# Altium integrated library Altera MAX 7000S.IntLib: 338 symbols (part 18 of 20)
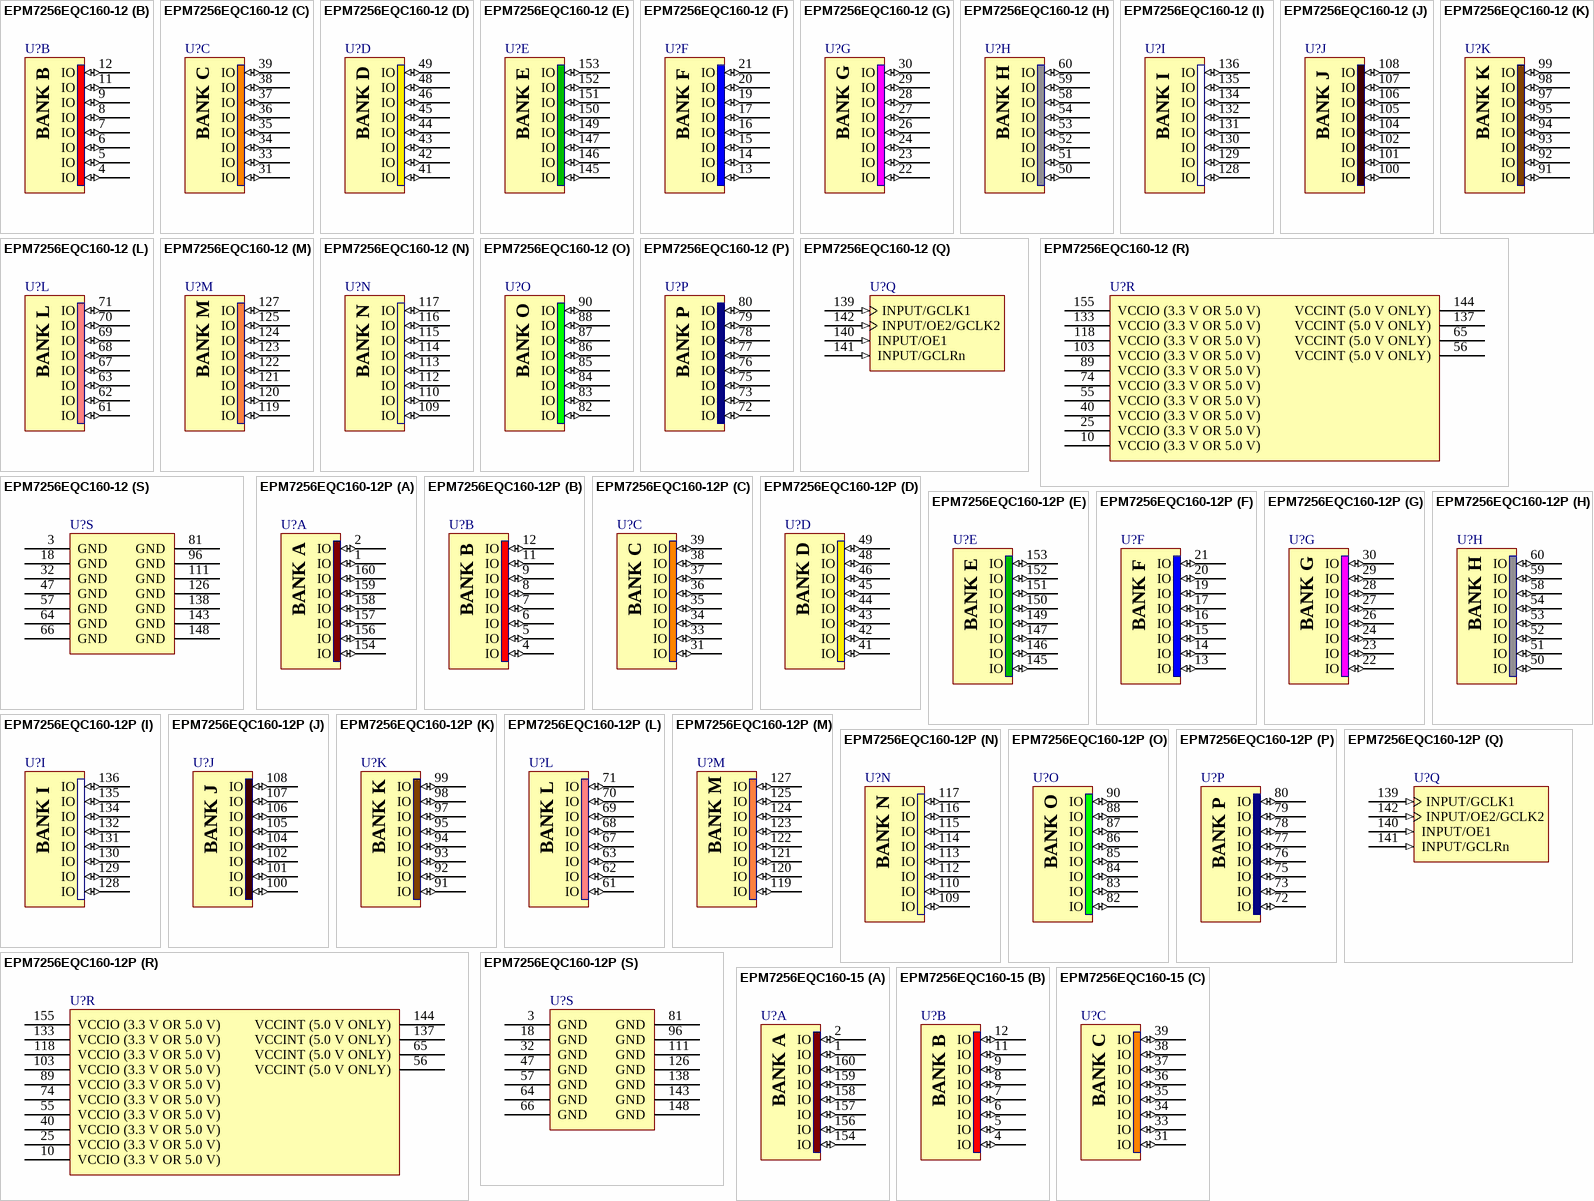
[diagram p121: symbols EPM7256EQC160-12 to EPM7256EQC160-15]

## EPM7256EQC160-12
designator U?
MAX 7000E 5V CPLD, 256 Macrocells, 160-Pin PQFP, Speed Grade 12, Commercial Grade; Published: 24-Nov-2000; LatestRevisionDate: 13-Apr-2006; LatestRevisionNote: IPC-7351 Footprint Added.; DatasheetVersion: ver6.7, Sep-2005; PackageVersion: ver14.3, Jul-2006; PackageReference: PQFP160; Publisher: Altium Limited; PackageDescription: 160-Pin Plastic Quad Flat Pack (PFQP160); Code_JEDEC: MS-022-DD-1; Code_IPC: QFP65P3120X3120-160; ComponentLink1Description: Manufacturer Link; ComponentLink1URL: http://www.altera.com/products/devices/max7k/m7k-index.html; ComponentLink2Description: Datasheet; ComponentLink2URL: http://www.altera.com/literature/ds/m7000.pdf; ComponentLink3Description: Packaging Specification; ComponentLink3URL: http://www.altera.com/literature/ds/dspkg.pdf
footprint PQFP160_N (QFP, 160-Leads, Body 28x28mm, Pitch 0.65mm, IPC Medium Density)
footprint PQFP160_L (QFP, 160-Leads, Body 28x28mm, Pitch 0.65mm, IPC High Density)
footprint PQFP160_M (QFP, 160-Leads, Body 28x28mm, Pitch 0.65mm, IPC Low Density)
3D model EPM7256E-PQFP160 (160-Pin Plastic Quad Flat Pack (PFQP160))
signal-integrity model 7k (MAX 7000S)
part A pins: 1 IO (io), 2 IO (io), 154 IO (io), 156 IO (io), 157 IO (io), 158 IO (io), 159 IO (io), 160 IO (io)
part B pins: 4 IO (io), 5 IO (io), 6 IO (io), 7 IO (io), 8 IO (io), 9 IO (io), 11 IO (io), 12 IO (io)
part C pins: 31 IO (io), 33 IO (io), 34 IO (io), 35 IO (io), 36 IO (io), 37 IO (io), 38 IO (io), 39 IO (io)
part D pins: 41 IO (io), 42 IO (io), 43 IO (io), 44 IO (io), 45 IO (io), 46 IO (io), 48 IO (io), 49 IO (io)
part E pins: 145 IO (io), 146 IO (io), 147 IO (io), 149 IO (io), 150 IO (io), 151 IO (io), 152 IO (io), 153 IO (io)
part F pins: 13 IO (io), 14 IO (io), 15 IO (io), 16 IO (io), 17 IO (io), 19 IO (io), 20 IO (io), 21 IO (io)
part G pins: 22 IO (io), 23 IO (io), 24 IO (io), 26 IO (io), 27 IO (io), 28 IO (io), 29 IO (io), 30 IO (io)
part H pins: 50 IO (io), 51 IO (io), 52 IO (io), 53 IO (io), 54 IO (io), 58 IO (io), 59 IO (io), 60 IO (io)
part I pins: 128 IO (io), 129 IO (io), 130 IO (io), 131 IO (io), 132 IO (io), 134 IO (io), 135 IO (io), 136 IO (io)
part J pins: 100 IO (io), 101 IO (io), 102 IO (io), 104 IO (io), 105 IO (io), 106 IO (io), 107 IO (io), 108 IO (io)
part K pins: 91 IO (io), 92 IO (io), 93 IO (io), 94 IO (io), 95 IO (io), 97 IO (io), 98 IO (io), 99 IO (io)
part L pins: 61 IO (io), 62 IO (io), 63 IO (io), 67 IO (io), 68 IO (io), 69 IO (io), 70 IO (io), 71 IO (io)
part M pins: 119 IO (io), 120 IO (io), 121 IO (io), 122 IO (io), 123 IO (io), 124 IO (io), 125 IO (io), 127 IO (io)
part N pins: 109 IO (io), 110 IO (io), 112 IO (io), 113 IO (io), 114 IO (io), 115 IO (io), 116 IO (io), 117 IO (io)
part O pins: 82 IO (io), 83 IO (io), 84 IO (io), 85 IO (io), 86 IO (io), 87 IO (io), 88 IO (io), 90 IO (io)
part P pins: 72 IO (io), 73 IO (io), 75 IO (io), 76 IO (io), 77 IO (io), 78 IO (io), 79 IO (io), 80 IO (io)
part Q pins: 139 INPUT/GCLK1 (in), 140 INPUT/OE1 (in), 141 INPUT/GCLRn (in), 142 INPUT/OE2/GCLK2 (in)
part R pins: 10 VCCIO (3.3 V OR 5.0 V) (power), 25 VCCIO (3.3 V OR 5.0 V) (power), 40 VCCIO (3.3 V OR 5.0 V) (power), 55 VCCIO (3.3 V OR 5.0 V) (power), 56 VCCINT (5.0 V ONLY) (power), 65 VCCINT (5.0 V ONLY) (power), 74 VCCIO (3.3 V OR 5.0 V) (power), 89 VCCIO (3.3 V OR 5.0 V) (power), 103 VCCIO (3.3 V OR 5.0 V) (power), 118 VCCIO (3.3 V OR 5.0 V) (power), 133 VCCIO (3.3 V OR 5.0 V) (power), 137 VCCINT (5.0 V ONLY) (power), 144 VCCINT (5.0 V ONLY) (power), 155 VCCIO (3.3 V OR 5.0 V) (power)
part S pins: 3 GND (power), 18 GND (power), 32 GND (power), 47 GND (power), 57 GND (power), 64 GND (power), 66 GND (power), 81 GND (power), 96 GND (power), 111 GND (power), 126 GND (power), 138 GND (power), 143 GND (power), 148 GND (power)
part A text: BANK A
part B text: BANK B
part C text: BANK C
part D text: BANK D
part E text: BANK E
part F text: BANK F
part G text: BANK G
part H text: BANK H
part I text: BANK I
part J text: BANK J
part K text: BANK K
part L text: BANK L
part M text: BANK M
part N text: BANK N
part O text: BANK O
part P text: BANK P

## EPM7256EQC160-12P
designator U?
MAX 7000E 5V CPLD, 256 Macrocells, 160-Pin PQFP, Speed Grade 12P, Commercial Grade; Published: 24-Nov-2000; LatestRevisionDate: 13-Apr-2006; LatestRevisionNote: IPC-7351 Footprint Added.; DatasheetVersion: ver6.7, Sep-2005; PackageVersion: ver14.3, Jul-2006; PackageReference: PQFP160; Publisher: Altium Limited; PackageDescription: 160-Pin Plastic Quad Flat Pack (PFQP160); Code_JEDEC: MS-022-DD-1; Code_IPC: QFP65P3120X3120-160; ComponentLink1Description: Manufacturer Link; ComponentLink1URL: http://www.altera.com/products/devices/max7k/m7k-index.html; ComponentLink2Description: Datasheet; ComponentLink2URL: http://www.altera.com/literature/ds/m7000.pdf; ComponentLink3Description: Packaging Specification; ComponentLink3URL: http://www.altera.com/literature/ds/dspkg.pdf
footprint PQFP160_N (QFP, 160-Leads, Body 28x28mm, Pitch 0.65mm, IPC Medium Density)
footprint PQFP160_L (QFP, 160-Leads, Body 28x28mm, Pitch 0.65mm, IPC High Density)
footprint PQFP160_M (QFP, 160-Leads, Body 28x28mm, Pitch 0.65mm, IPC Low Density)
3D model EPM7256E-PQFP160 (160-Pin Plastic Quad Flat Pack (PFQP160))
signal-integrity model 7k (MAX 7000S)
part A pins: 1 IO (io), 2 IO (io), 154 IO (io), 156 IO (io), 157 IO (io), 158 IO (io), 159 IO (io), 160 IO (io)
part B pins: 4 IO (io), 5 IO (io), 6 IO (io), 7 IO (io), 8 IO (io), 9 IO (io), 11 IO (io), 12 IO (io)
part C pins: 31 IO (io), 33 IO (io), 34 IO (io), 35 IO (io), 36 IO (io), 37 IO (io), 38 IO (io), 39 IO (io)
part D pins: 41 IO (io), 42 IO (io), 43 IO (io), 44 IO (io), 45 IO (io), 46 IO (io), 48 IO (io), 49 IO (io)
part E pins: 145 IO (io), 146 IO (io), 147 IO (io), 149 IO (io), 150 IO (io), 151 IO (io), 152 IO (io), 153 IO (io)
part F pins: 13 IO (io), 14 IO (io), 15 IO (io), 16 IO (io), 17 IO (io), 19 IO (io), 20 IO (io), 21 IO (io)
part G pins: 22 IO (io), 23 IO (io), 24 IO (io), 26 IO (io), 27 IO (io), 28 IO (io), 29 IO (io), 30 IO (io)
part H pins: 50 IO (io), 51 IO (io), 52 IO (io), 53 IO (io), 54 IO (io), 58 IO (io), 59 IO (io), 60 IO (io)
part I pins: 128 IO (io), 129 IO (io), 130 IO (io), 131 IO (io), 132 IO (io), 134 IO (io), 135 IO (io), 136 IO (io)
part J pins: 100 IO (io), 101 IO (io), 102 IO (io), 104 IO (io), 105 IO (io), 106 IO (io), 107 IO (io), 108 IO (io)
part K pins: 91 IO (io), 92 IO (io), 93 IO (io), 94 IO (io), 95 IO (io), 97 IO (io), 98 IO (io), 99 IO (io)
part L pins: 61 IO (io), 62 IO (io), 63 IO (io), 67 IO (io), 68 IO (io), 69 IO (io), 70 IO (io), 71 IO (io)
part M pins: 119 IO (io), 120 IO (io), 121 IO (io), 122 IO (io), 123 IO (io), 124 IO (io), 125 IO (io), 127 IO (io)
part N pins: 109 IO (io), 110 IO (io), 112 IO (io), 113 IO (io), 114 IO (io), 115 IO (io), 116 IO (io), 117 IO (io)
part O pins: 82 IO (io), 83 IO (io), 84 IO (io), 85 IO (io), 86 IO (io), 87 IO (io), 88 IO (io), 90 IO (io)
part P pins: 72 IO (io), 73 IO (io), 75 IO (io), 76 IO (io), 77 IO (io), 78 IO (io), 79 IO (io), 80 IO (io)
part Q pins: 139 INPUT/GCLK1 (in), 140 INPUT/OE1 (in), 141 INPUT/GCLRn (in), 142 INPUT/OE2/GCLK2 (in)
part R pins: 10 VCCIO (3.3 V OR 5.0 V) (power), 25 VCCIO (3.3 V OR 5.0 V) (power), 40 VCCIO (3.3 V OR 5.0 V) (power), 55 VCCIO (3.3 V OR 5.0 V) (power), 56 VCCINT (5.0 V ONLY) (power), 65 VCCINT (5.0 V ONLY) (power), 74 VCCIO (3.3 V OR 5.0 V) (power), 89 VCCIO (3.3 V OR 5.0 V) (power), 103 VCCIO (3.3 V OR 5.0 V) (power), 118 VCCIO (3.3 V OR 5.0 V) (power), 133 VCCIO (3.3 V OR 5.0 V) (power), 137 VCCINT (5.0 V ONLY) (power), 144 VCCINT (5.0 V ONLY) (power), 155 VCCIO (3.3 V OR 5.0 V) (power)
part S pins: 3 GND (power), 18 GND (power), 32 GND (power), 47 GND (power), 57 GND (power), 64 GND (power), 66 GND (power), 81 GND (power), 96 GND (power), 111 GND (power), 126 GND (power), 138 GND (power), 143 GND (power), 148 GND (power)
part A text: BANK A
part B text: BANK B
part C text: BANK C
part D text: BANK D
part E text: BANK E
part F text: BANK F
part G text: BANK G
part H text: BANK H
part I text: BANK I
part J text: BANK J
part K text: BANK K
part L text: BANK L
part M text: BANK M
part N text: BANK N
part O text: BANK O
part P text: BANK P

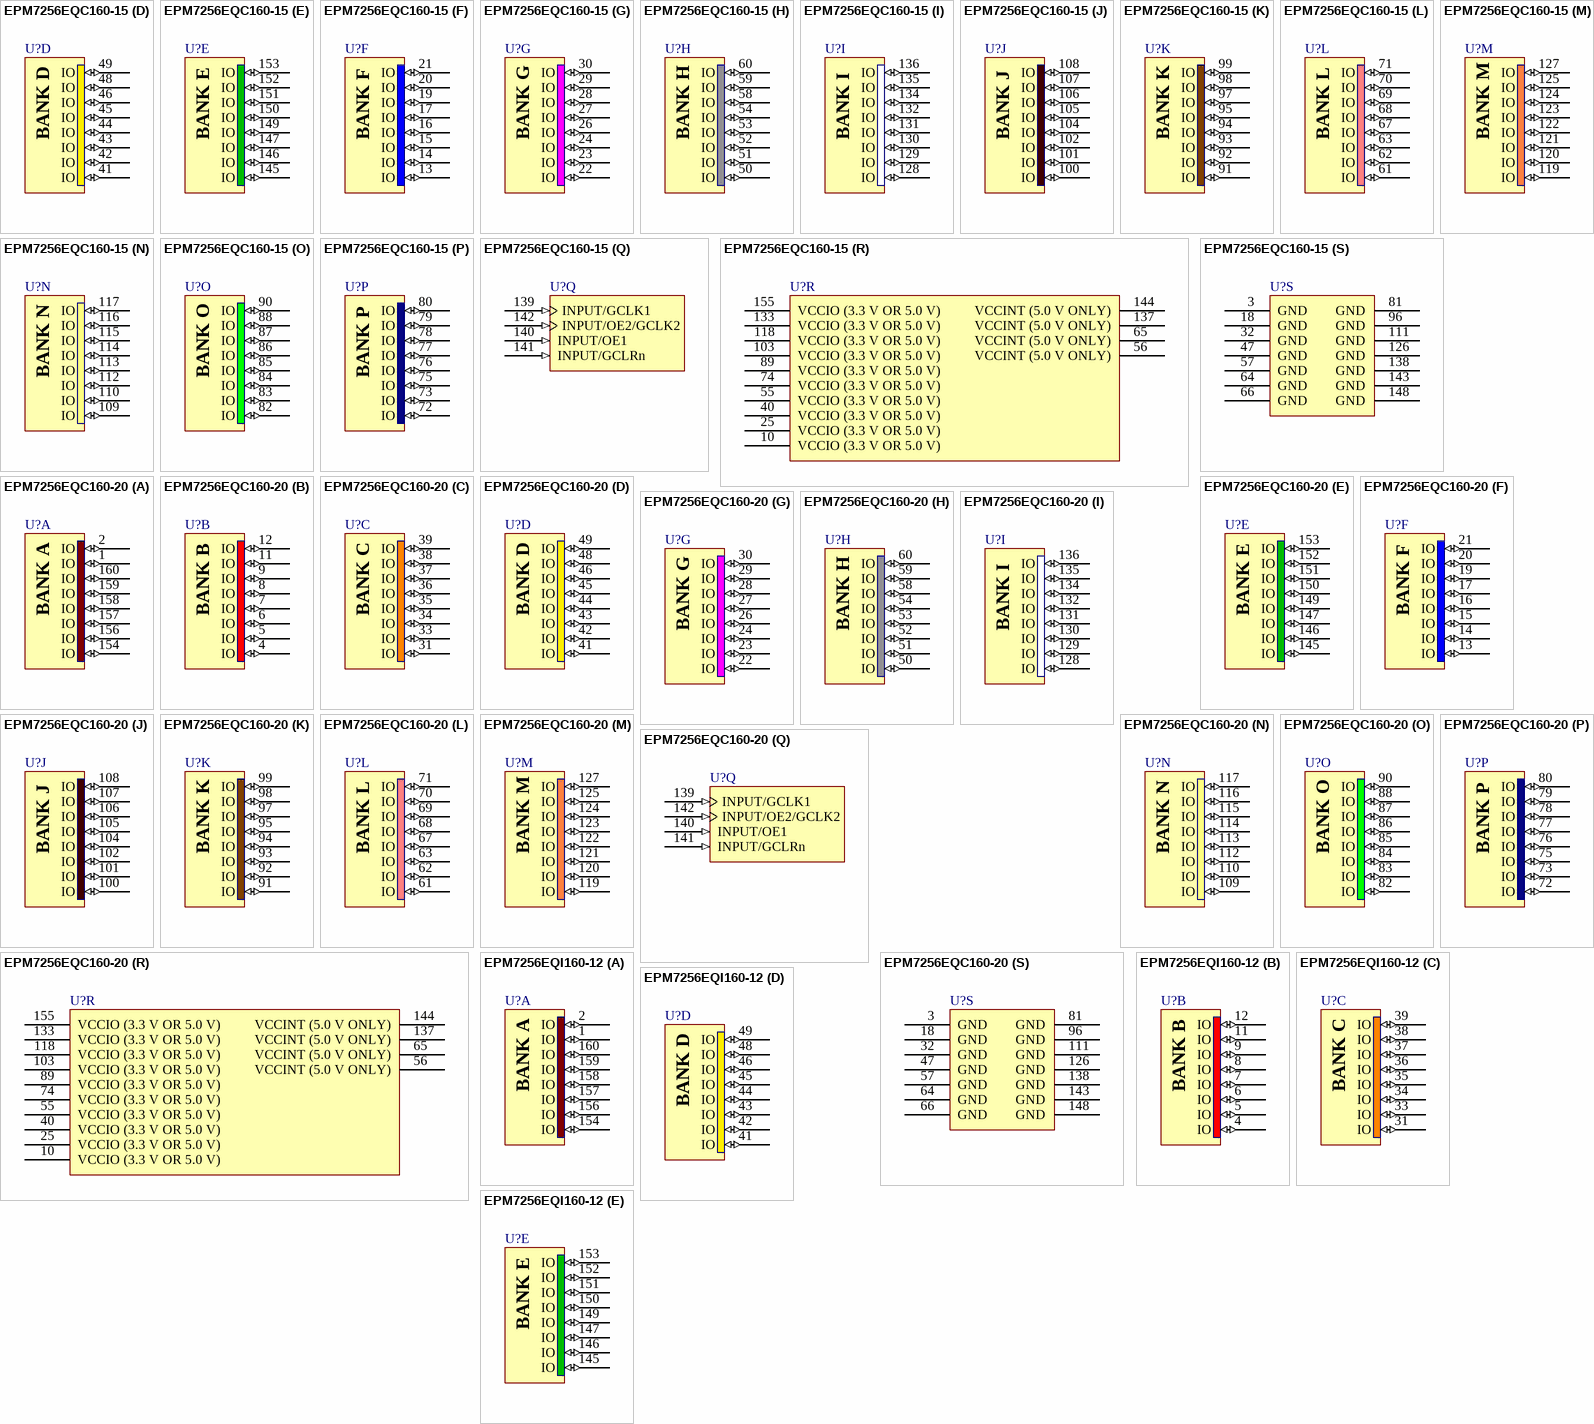
[diagram p91: symbols EPM7256EQC160-15 to EPM7256EQI160-12]

## EPM7256EQC160-15
designator U?
MAX 7000E 5V CPLD, 256 Macrocells, 160-Pin PQFP, Speed Grade 15, Commercial Grade; Published: 24-Nov-2000; LatestRevisionDate: 13-Apr-2006; LatestRevisionNote: IPC-7351 Footprint Added.; DatasheetVersion: ver6.7, Sep-2005; PackageVersion: ver14.3, Jul-2006; PackageReference: PQFP160; Publisher: Altium Limited; PackageDescription: 160-Pin Plastic Quad Flat Pack (PFQP160); Code_JEDEC: MS-022-DD-1; Code_IPC: QFP65P3120X3120-160; ComponentLink1Description: Manufacturer Link; ComponentLink1URL: http://www.altera.com/products/devices/max7k/m7k-index.html; ComponentLink2Description: Datasheet; ComponentLink2URL: http://www.altera.com/literature/ds/m7000.pdf; ComponentLink3Description: Packaging Specification; ComponentLink3URL: http://www.altera.com/literature/ds/dspkg.pdf
footprint PQFP160_N (QFP, 160-Leads, Body 28x28mm, Pitch 0.65mm, IPC Medium Density)
footprint PQFP160_L (QFP, 160-Leads, Body 28x28mm, Pitch 0.65mm, IPC High Density)
footprint PQFP160_M (QFP, 160-Leads, Body 28x28mm, Pitch 0.65mm, IPC Low Density)
3D model EPM7256E-PQFP160 (160-Pin Plastic Quad Flat Pack (PFQP160))
signal-integrity model 7k (MAX 7000S)
part A pins: 1 IO (io), 2 IO (io), 154 IO (io), 156 IO (io), 157 IO (io), 158 IO (io), 159 IO (io), 160 IO (io)
part B pins: 4 IO (io), 5 IO (io), 6 IO (io), 7 IO (io), 8 IO (io), 9 IO (io), 11 IO (io), 12 IO (io)
part C pins: 31 IO (io), 33 IO (io), 34 IO (io), 35 IO (io), 36 IO (io), 37 IO (io), 38 IO (io), 39 IO (io)
part D pins: 41 IO (io), 42 IO (io), 43 IO (io), 44 IO (io), 45 IO (io), 46 IO (io), 48 IO (io), 49 IO (io)
part E pins: 145 IO (io), 146 IO (io), 147 IO (io), 149 IO (io), 150 IO (io), 151 IO (io), 152 IO (io), 153 IO (io)
part F pins: 13 IO (io), 14 IO (io), 15 IO (io), 16 IO (io), 17 IO (io), 19 IO (io), 20 IO (io), 21 IO (io)
part G pins: 22 IO (io), 23 IO (io), 24 IO (io), 26 IO (io), 27 IO (io), 28 IO (io), 29 IO (io), 30 IO (io)
part H pins: 50 IO (io), 51 IO (io), 52 IO (io), 53 IO (io), 54 IO (io), 58 IO (io), 59 IO (io), 60 IO (io)
part I pins: 128 IO (io), 129 IO (io), 130 IO (io), 131 IO (io), 132 IO (io), 134 IO (io), 135 IO (io), 136 IO (io)
part J pins: 100 IO (io), 101 IO (io), 102 IO (io), 104 IO (io), 105 IO (io), 106 IO (io), 107 IO (io), 108 IO (io)
part K pins: 91 IO (io), 92 IO (io), 93 IO (io), 94 IO (io), 95 IO (io), 97 IO (io), 98 IO (io), 99 IO (io)
part L pins: 61 IO (io), 62 IO (io), 63 IO (io), 67 IO (io), 68 IO (io), 69 IO (io), 70 IO (io), 71 IO (io)
part M pins: 119 IO (io), 120 IO (io), 121 IO (io), 122 IO (io), 123 IO (io), 124 IO (io), 125 IO (io), 127 IO (io)
part N pins: 109 IO (io), 110 IO (io), 112 IO (io), 113 IO (io), 114 IO (io), 115 IO (io), 116 IO (io), 117 IO (io)
part O pins: 82 IO (io), 83 IO (io), 84 IO (io), 85 IO (io), 86 IO (io), 87 IO (io), 88 IO (io), 90 IO (io)
part P pins: 72 IO (io), 73 IO (io), 75 IO (io), 76 IO (io), 77 IO (io), 78 IO (io), 79 IO (io), 80 IO (io)
part Q pins: 139 INPUT/GCLK1 (in), 140 INPUT/OE1 (in), 141 INPUT/GCLRn (in), 142 INPUT/OE2/GCLK2 (in)
part R pins: 10 VCCIO (3.3 V OR 5.0 V) (power), 25 VCCIO (3.3 V OR 5.0 V) (power), 40 VCCIO (3.3 V OR 5.0 V) (power), 55 VCCIO (3.3 V OR 5.0 V) (power), 56 VCCINT (5.0 V ONLY) (power), 65 VCCINT (5.0 V ONLY) (power), 74 VCCIO (3.3 V OR 5.0 V) (power), 89 VCCIO (3.3 V OR 5.0 V) (power), 103 VCCIO (3.3 V OR 5.0 V) (power), 118 VCCIO (3.3 V OR 5.0 V) (power), 133 VCCIO (3.3 V OR 5.0 V) (power), 137 VCCINT (5.0 V ONLY) (power), 144 VCCINT (5.0 V ONLY) (power), 155 VCCIO (3.3 V OR 5.0 V) (power)
part S pins: 3 GND (power), 18 GND (power), 32 GND (power), 47 GND (power), 57 GND (power), 64 GND (power), 66 GND (power), 81 GND (power), 96 GND (power), 111 GND (power), 126 GND (power), 138 GND (power), 143 GND (power), 148 GND (power)
part A text: BANK A
part B text: BANK B
part C text: BANK C
part D text: BANK D
part E text: BANK E
part F text: BANK F
part G text: BANK G
part H text: BANK H
part I text: BANK I
part J text: BANK J
part K text: BANK K
part L text: BANK L
part M text: BANK M
part N text: BANK N
part O text: BANK O
part P text: BANK P

## EPM7256EQC160-20
designator U?
MAX 7000E 5V CPLD, 256 Macrocells, 160-Pin PQFP, Speed Grade 20, Commercial Grade; Published: 24-Nov-2000; LatestRevisionDate: 13-Apr-2006; LatestRevisionNote: IPC-7351 Footprint Added.; DatasheetVersion: ver6.7, Sep-2005; PackageVersion: ver14.3, Jul-2006; PackageReference: PQFP160; Publisher: Altium Limited; PackageDescription: 160-Pin Plastic Quad Flat Pack (PFQP160); Code_JEDEC: MS-022-DD-1; Code_IPC: QFP65P3120X3120-160; ComponentLink1Description: Manufacturer Link; ComponentLink1URL: http://www.altera.com/products/devices/max7k/m7k-index.html; ComponentLink2Description: Datasheet; ComponentLink2URL: http://www.altera.com/literature/ds/m7000.pdf; ComponentLink3Description: Packaging Specification; ComponentLink3URL: http://www.altera.com/literature/ds/dspkg.pdf
footprint PQFP160_N (QFP, 160-Leads, Body 28x28mm, Pitch 0.65mm, IPC Medium Density)
footprint PQFP160_L (QFP, 160-Leads, Body 28x28mm, Pitch 0.65mm, IPC High Density)
footprint PQFP160_M (QFP, 160-Leads, Body 28x28mm, Pitch 0.65mm, IPC Low Density)
3D model EPM7256E-PQFP160 (160-Pin Plastic Quad Flat Pack (PFQP160))
signal-integrity model 7k (MAX 7000S)
part A pins: 1 IO (io), 2 IO (io), 154 IO (io), 156 IO (io), 157 IO (io), 158 IO (io), 159 IO (io), 160 IO (io)
part B pins: 4 IO (io), 5 IO (io), 6 IO (io), 7 IO (io), 8 IO (io), 9 IO (io), 11 IO (io), 12 IO (io)
part C pins: 31 IO (io), 33 IO (io), 34 IO (io), 35 IO (io), 36 IO (io), 37 IO (io), 38 IO (io), 39 IO (io)
part D pins: 41 IO (io), 42 IO (io), 43 IO (io), 44 IO (io), 45 IO (io), 46 IO (io), 48 IO (io), 49 IO (io)
part E pins: 145 IO (io), 146 IO (io), 147 IO (io), 149 IO (io), 150 IO (io), 151 IO (io), 152 IO (io), 153 IO (io)
part F pins: 13 IO (io), 14 IO (io), 15 IO (io), 16 IO (io), 17 IO (io), 19 IO (io), 20 IO (io), 21 IO (io)
part G pins: 22 IO (io), 23 IO (io), 24 IO (io), 26 IO (io), 27 IO (io), 28 IO (io), 29 IO (io), 30 IO (io)
part H pins: 50 IO (io), 51 IO (io), 52 IO (io), 53 IO (io), 54 IO (io), 58 IO (io), 59 IO (io), 60 IO (io)
part I pins: 128 IO (io), 129 IO (io), 130 IO (io), 131 IO (io), 132 IO (io), 134 IO (io), 135 IO (io), 136 IO (io)
part J pins: 100 IO (io), 101 IO (io), 102 IO (io), 104 IO (io), 105 IO (io), 106 IO (io), 107 IO (io), 108 IO (io)
part K pins: 91 IO (io), 92 IO (io), 93 IO (io), 94 IO (io), 95 IO (io), 97 IO (io), 98 IO (io), 99 IO (io)
part L pins: 61 IO (io), 62 IO (io), 63 IO (io), 67 IO (io), 68 IO (io), 69 IO (io), 70 IO (io), 71 IO (io)
part M pins: 119 IO (io), 120 IO (io), 121 IO (io), 122 IO (io), 123 IO (io), 124 IO (io), 125 IO (io), 127 IO (io)
part N pins: 109 IO (io), 110 IO (io), 112 IO (io), 113 IO (io), 114 IO (io), 115 IO (io), 116 IO (io), 117 IO (io)
part O pins: 82 IO (io), 83 IO (io), 84 IO (io), 85 IO (io), 86 IO (io), 87 IO (io), 88 IO (io), 90 IO (io)
part P pins: 72 IO (io), 73 IO (io), 75 IO (io), 76 IO (io), 77 IO (io), 78 IO (io), 79 IO (io), 80 IO (io)
part Q pins: 139 INPUT/GCLK1 (in), 140 INPUT/OE1 (in), 141 INPUT/GCLRn (in), 142 INPUT/OE2/GCLK2 (in)
part R pins: 10 VCCIO (3.3 V OR 5.0 V) (power), 25 VCCIO (3.3 V OR 5.0 V) (power), 40 VCCIO (3.3 V OR 5.0 V) (power), 55 VCCIO (3.3 V OR 5.0 V) (power), 56 VCCINT (5.0 V ONLY) (power), 65 VCCINT (5.0 V ONLY) (power), 74 VCCIO (3.3 V OR 5.0 V) (power), 89 VCCIO (3.3 V OR 5.0 V) (power), 103 VCCIO (3.3 V OR 5.0 V) (power), 118 VCCIO (3.3 V OR 5.0 V) (power), 133 VCCIO (3.3 V OR 5.0 V) (power), 137 VCCINT (5.0 V ONLY) (power), 144 VCCINT (5.0 V ONLY) (power), 155 VCCIO (3.3 V OR 5.0 V) (power)
part S pins: 3 GND (power), 18 GND (power), 32 GND (power), 47 GND (power), 57 GND (power), 64 GND (power), 66 GND (power), 81 GND (power), 96 GND (power), 111 GND (power), 126 GND (power), 138 GND (power), 143 GND (power), 148 GND (power)
part A text: BANK A
part B text: BANK B
part C text: BANK C
part D text: BANK D
part E text: BANK E
part F text: BANK F
part G text: BANK G
part H text: BANK H
part I text: BANK I
part J text: BANK J
part K text: BANK K
part L text: BANK L
part M text: BANK M
part N text: BANK N
part O text: BANK O
part P text: BANK P

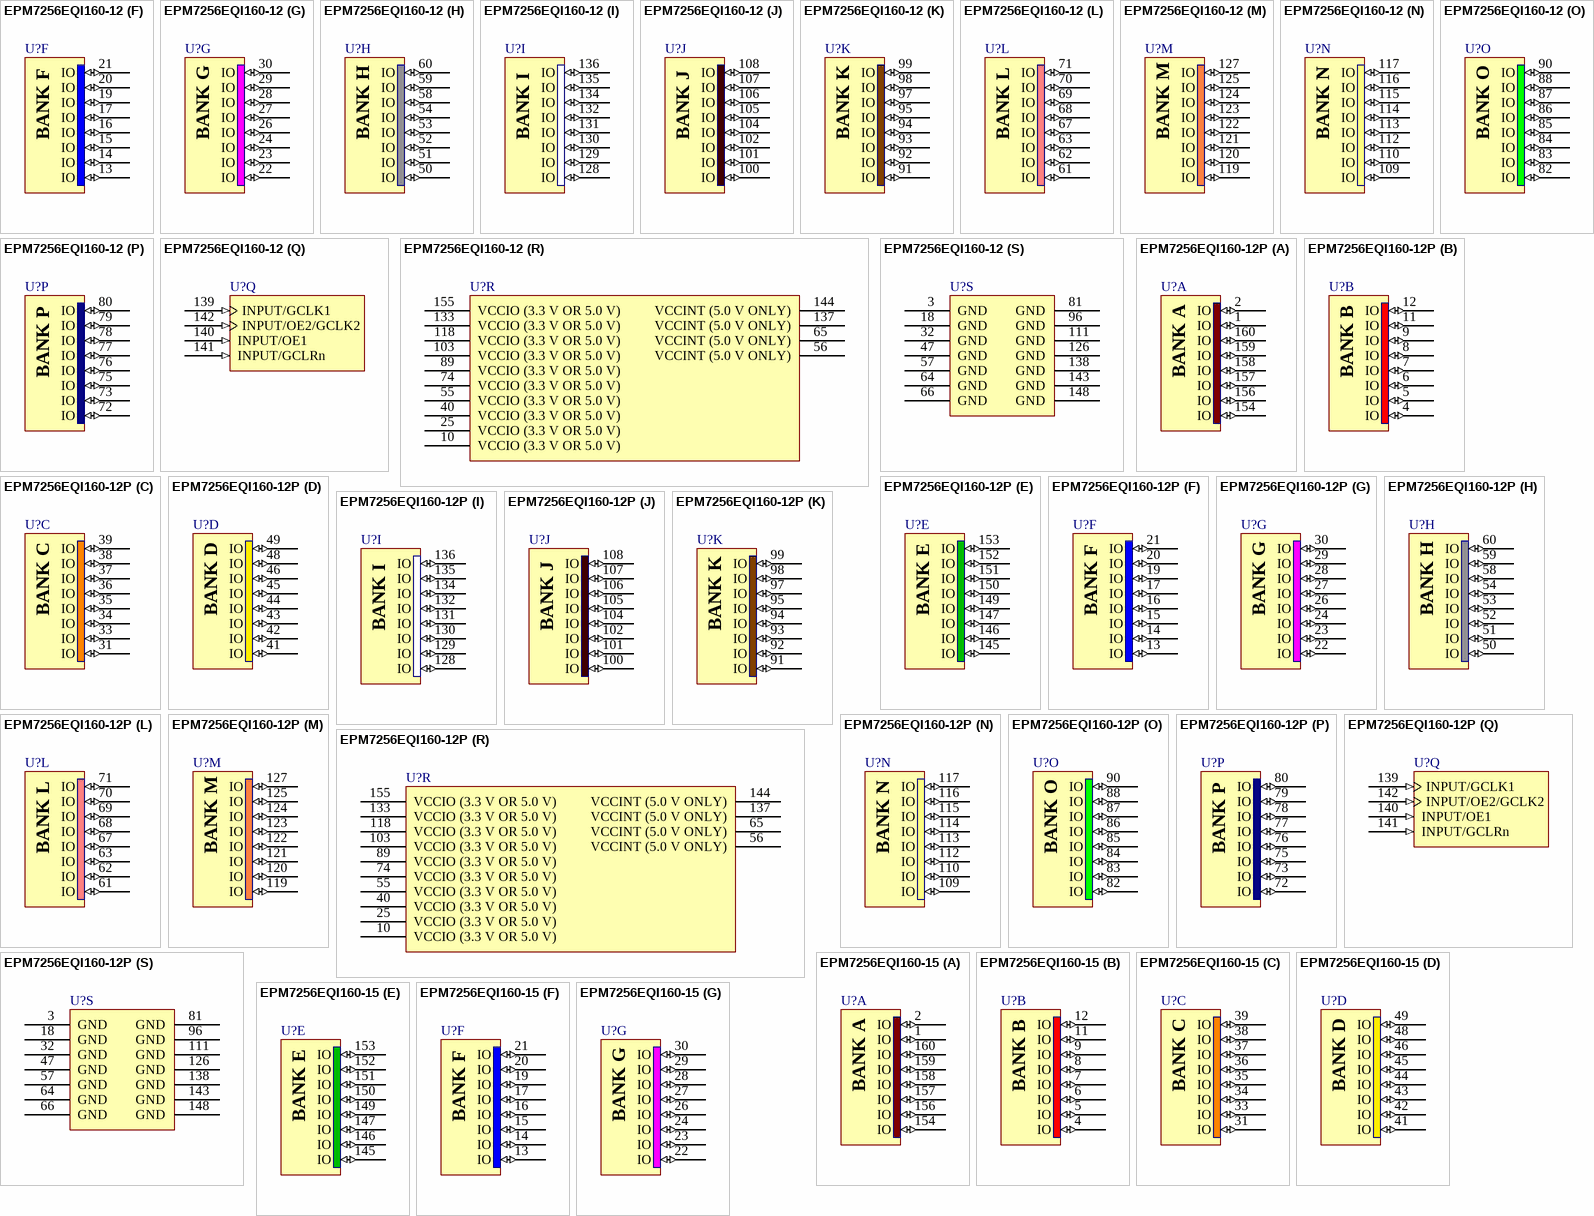
[diagram p92: symbols EPM7256EQI160-12 to EPM7256EQI160-15]

## EPM7256EQI160-12
designator U?
MAX 7000E 5V CPLD, 256 Macrocells, 160-Pin PQFP, Speed Grade 12, Industrial Grade; Published: 17-Sep-2003; LatestRevisionDate: 13-Apr-2006; LatestRevisionNote: IPC-7351 Footprint Added.; DatasheetVersion: ver6.7, Sep-2005; PackageVersion: ver14.3, Jul-2006; PackageReference: PQFP160; Publisher: Altium Limited; PackageDescription: 160-Pin Plastic Quad Flat Pack (PFQP160); Code_JEDEC: MS-022-DD-1; Code_IPC: QFP65P3120X3120-160; ComponentLink1Description: Manufacturer Link; ComponentLink1URL: http://www.altera.com/products/devices/max7k/m7k-index.html; ComponentLink2Description: Datasheet; ComponentLink2URL: http://www.altera.com/literature/ds/m7000.pdf; ComponentLink3Description: Packaging Specification; ComponentLink3URL: http://www.altera.com/literature/ds/dspkg.pdf
footprint PQFP160_N (QFP, 160-Leads, Body 28x28mm, Pitch 0.65mm, IPC Medium Density)
footprint PQFP160_L (QFP, 160-Leads, Body 28x28mm, Pitch 0.65mm, IPC High Density)
footprint PQFP160_M (QFP, 160-Leads, Body 28x28mm, Pitch 0.65mm, IPC Low Density)
3D model EPM7256E-PQFP160 (160-Pin Plastic Quad Flat Pack (PFQP160))
signal-integrity model 7k (MAX 7000S)
part A pins: 1 IO (io), 2 IO (io), 154 IO (io), 156 IO (io), 157 IO (io), 158 IO (io), 159 IO (io), 160 IO (io)
part B pins: 4 IO (io), 5 IO (io), 6 IO (io), 7 IO (io), 8 IO (io), 9 IO (io), 11 IO (io), 12 IO (io)
part C pins: 31 IO (io), 33 IO (io), 34 IO (io), 35 IO (io), 36 IO (io), 37 IO (io), 38 IO (io), 39 IO (io)
part D pins: 41 IO (io), 42 IO (io), 43 IO (io), 44 IO (io), 45 IO (io), 46 IO (io), 48 IO (io), 49 IO (io)
part E pins: 145 IO (io), 146 IO (io), 147 IO (io), 149 IO (io), 150 IO (io), 151 IO (io), 152 IO (io), 153 IO (io)
part F pins: 13 IO (io), 14 IO (io), 15 IO (io), 16 IO (io), 17 IO (io), 19 IO (io), 20 IO (io), 21 IO (io)
part G pins: 22 IO (io), 23 IO (io), 24 IO (io), 26 IO (io), 27 IO (io), 28 IO (io), 29 IO (io), 30 IO (io)
part H pins: 50 IO (io), 51 IO (io), 52 IO (io), 53 IO (io), 54 IO (io), 58 IO (io), 59 IO (io), 60 IO (io)
part I pins: 128 IO (io), 129 IO (io), 130 IO (io), 131 IO (io), 132 IO (io), 134 IO (io), 135 IO (io), 136 IO (io)
part J pins: 100 IO (io), 101 IO (io), 102 IO (io), 104 IO (io), 105 IO (io), 106 IO (io), 107 IO (io), 108 IO (io)
part K pins: 91 IO (io), 92 IO (io), 93 IO (io), 94 IO (io), 95 IO (io), 97 IO (io), 98 IO (io), 99 IO (io)
part L pins: 61 IO (io), 62 IO (io), 63 IO (io), 67 IO (io), 68 IO (io), 69 IO (io), 70 IO (io), 71 IO (io)
part M pins: 119 IO (io), 120 IO (io), 121 IO (io), 122 IO (io), 123 IO (io), 124 IO (io), 125 IO (io), 127 IO (io)
part N pins: 109 IO (io), 110 IO (io), 112 IO (io), 113 IO (io), 114 IO (io), 115 IO (io), 116 IO (io), 117 IO (io)
part O pins: 82 IO (io), 83 IO (io), 84 IO (io), 85 IO (io), 86 IO (io), 87 IO (io), 88 IO (io), 90 IO (io)
part P pins: 72 IO (io), 73 IO (io), 75 IO (io), 76 IO (io), 77 IO (io), 78 IO (io), 79 IO (io), 80 IO (io)
part Q pins: 139 INPUT/GCLK1 (in), 140 INPUT/OE1 (in), 141 INPUT/GCLRn (in), 142 INPUT/OE2/GCLK2 (in)
part R pins: 10 VCCIO (3.3 V OR 5.0 V) (power), 25 VCCIO (3.3 V OR 5.0 V) (power), 40 VCCIO (3.3 V OR 5.0 V) (power), 55 VCCIO (3.3 V OR 5.0 V) (power), 56 VCCINT (5.0 V ONLY) (power), 65 VCCINT (5.0 V ONLY) (power), 74 VCCIO (3.3 V OR 5.0 V) (power), 89 VCCIO (3.3 V OR 5.0 V) (power), 103 VCCIO (3.3 V OR 5.0 V) (power), 118 VCCIO (3.3 V OR 5.0 V) (power), 133 VCCIO (3.3 V OR 5.0 V) (power), 137 VCCINT (5.0 V ONLY) (power), 144 VCCINT (5.0 V ONLY) (power), 155 VCCIO (3.3 V OR 5.0 V) (power)
part S pins: 3 GND (power), 18 GND (power), 32 GND (power), 47 GND (power), 57 GND (power), 64 GND (power), 66 GND (power), 81 GND (power), 96 GND (power), 111 GND (power), 126 GND (power), 138 GND (power), 143 GND (power), 148 GND (power)
part A text: BANK A
part B text: BANK B
part C text: BANK C
part D text: BANK D
part E text: BANK E
part F text: BANK F
part G text: BANK G
part H text: BANK H
part I text: BANK I
part J text: BANK J
part K text: BANK K
part L text: BANK L
part M text: BANK M
part N text: BANK N
part O text: BANK O
part P text: BANK P

## EPM7256EQI160-12P
designator U?
MAX 7000E 5V CPLD, 256 Macrocells, 160-Pin PQFP, Speed Grade 12P, Industrial Grade; Published: 17-Sep-2003; LatestRevisionDate: 13-Apr-2006; LatestRevisionNote: IPC-7351 Footprint Added.; DatasheetVersion: ver6.7, Sep-2005; PackageVersion: ver14.3, Jul-2006; PackageReference: PQFP160; Publisher: Altium Limited; PackageDescription: 160-Pin Plastic Quad Flat Pack (PFQP160); Code_JEDEC: MS-022-DD-1; Code_IPC: QFP65P3120X3120-160; ComponentLink1Description: Manufacturer Link; ComponentLink1URL: http://www.altera.com/products/devices/max7k/m7k-index.html; ComponentLink2Description: Datasheet; ComponentLink2URL: http://www.altera.com/literature/ds/m7000.pdf; ComponentLink3Description: Packaging Specification; ComponentLink3URL: http://www.altera.com/literature/ds/dspkg.pdf
footprint PQFP160_N (QFP, 160-Leads, Body 28x28mm, Pitch 0.65mm, IPC Medium Density)
footprint PQFP160_L (QFP, 160-Leads, Body 28x28mm, Pitch 0.65mm, IPC High Density)
footprint PQFP160_M (QFP, 160-Leads, Body 28x28mm, Pitch 0.65mm, IPC Low Density)
3D model EPM7256E-PQFP160 (160-Pin Plastic Quad Flat Pack (PFQP160))
signal-integrity model 7k (MAX 7000S)
part A pins: 1 IO (io), 2 IO (io), 154 IO (io), 156 IO (io), 157 IO (io), 158 IO (io), 159 IO (io), 160 IO (io)
part B pins: 4 IO (io), 5 IO (io), 6 IO (io), 7 IO (io), 8 IO (io), 9 IO (io), 11 IO (io), 12 IO (io)
part C pins: 31 IO (io), 33 IO (io), 34 IO (io), 35 IO (io), 36 IO (io), 37 IO (io), 38 IO (io), 39 IO (io)
part D pins: 41 IO (io), 42 IO (io), 43 IO (io), 44 IO (io), 45 IO (io), 46 IO (io), 48 IO (io), 49 IO (io)
part E pins: 145 IO (io), 146 IO (io), 147 IO (io), 149 IO (io), 150 IO (io), 151 IO (io), 152 IO (io), 153 IO (io)
part F pins: 13 IO (io), 14 IO (io), 15 IO (io), 16 IO (io), 17 IO (io), 19 IO (io), 20 IO (io), 21 IO (io)
part G pins: 22 IO (io), 23 IO (io), 24 IO (io), 26 IO (io), 27 IO (io), 28 IO (io), 29 IO (io), 30 IO (io)
part H pins: 50 IO (io), 51 IO (io), 52 IO (io), 53 IO (io), 54 IO (io), 58 IO (io), 59 IO (io), 60 IO (io)
part I pins: 128 IO (io), 129 IO (io), 130 IO (io), 131 IO (io), 132 IO (io), 134 IO (io), 135 IO (io), 136 IO (io)
part J pins: 100 IO (io), 101 IO (io), 102 IO (io), 104 IO (io), 105 IO (io), 106 IO (io), 107 IO (io), 108 IO (io)
part K pins: 91 IO (io), 92 IO (io), 93 IO (io), 94 IO (io), 95 IO (io), 97 IO (io), 98 IO (io), 99 IO (io)
part L pins: 61 IO (io), 62 IO (io), 63 IO (io), 67 IO (io), 68 IO (io), 69 IO (io), 70 IO (io), 71 IO (io)
part M pins: 119 IO (io), 120 IO (io), 121 IO (io), 122 IO (io), 123 IO (io), 124 IO (io), 125 IO (io), 127 IO (io)
part N pins: 109 IO (io), 110 IO (io), 112 IO (io), 113 IO (io), 114 IO (io), 115 IO (io), 116 IO (io), 117 IO (io)
part O pins: 82 IO (io), 83 IO (io), 84 IO (io), 85 IO (io), 86 IO (io), 87 IO (io), 88 IO (io), 90 IO (io)
part P pins: 72 IO (io), 73 IO (io), 75 IO (io), 76 IO (io), 77 IO (io), 78 IO (io), 79 IO (io), 80 IO (io)
part Q pins: 139 INPUT/GCLK1 (in), 140 INPUT/OE1 (in), 141 INPUT/GCLRn (in), 142 INPUT/OE2/GCLK2 (in)
part R pins: 10 VCCIO (3.3 V OR 5.0 V) (power), 25 VCCIO (3.3 V OR 5.0 V) (power), 40 VCCIO (3.3 V OR 5.0 V) (power), 55 VCCIO (3.3 V OR 5.0 V) (power), 56 VCCINT (5.0 V ONLY) (power), 65 VCCINT (5.0 V ONLY) (power), 74 VCCIO (3.3 V OR 5.0 V) (power), 89 VCCIO (3.3 V OR 5.0 V) (power), 103 VCCIO (3.3 V OR 5.0 V) (power), 118 VCCIO (3.3 V OR 5.0 V) (power), 133 VCCIO (3.3 V OR 5.0 V) (power), 137 VCCINT (5.0 V ONLY) (power), 144 VCCINT (5.0 V ONLY) (power), 155 VCCIO (3.3 V OR 5.0 V) (power)
part S pins: 3 GND (power), 18 GND (power), 32 GND (power), 47 GND (power), 57 GND (power), 64 GND (power), 66 GND (power), 81 GND (power), 96 GND (power), 111 GND (power), 126 GND (power), 138 GND (power), 143 GND (power), 148 GND (power)
part A text: BANK A
part B text: BANK B
part C text: BANK C
part D text: BANK D
part E text: BANK E
part F text: BANK F
part G text: BANK G
part H text: BANK H
part I text: BANK I
part J text: BANK J
part K text: BANK K
part L text: BANK L
part M text: BANK M
part N text: BANK N
part O text: BANK O
part P text: BANK P

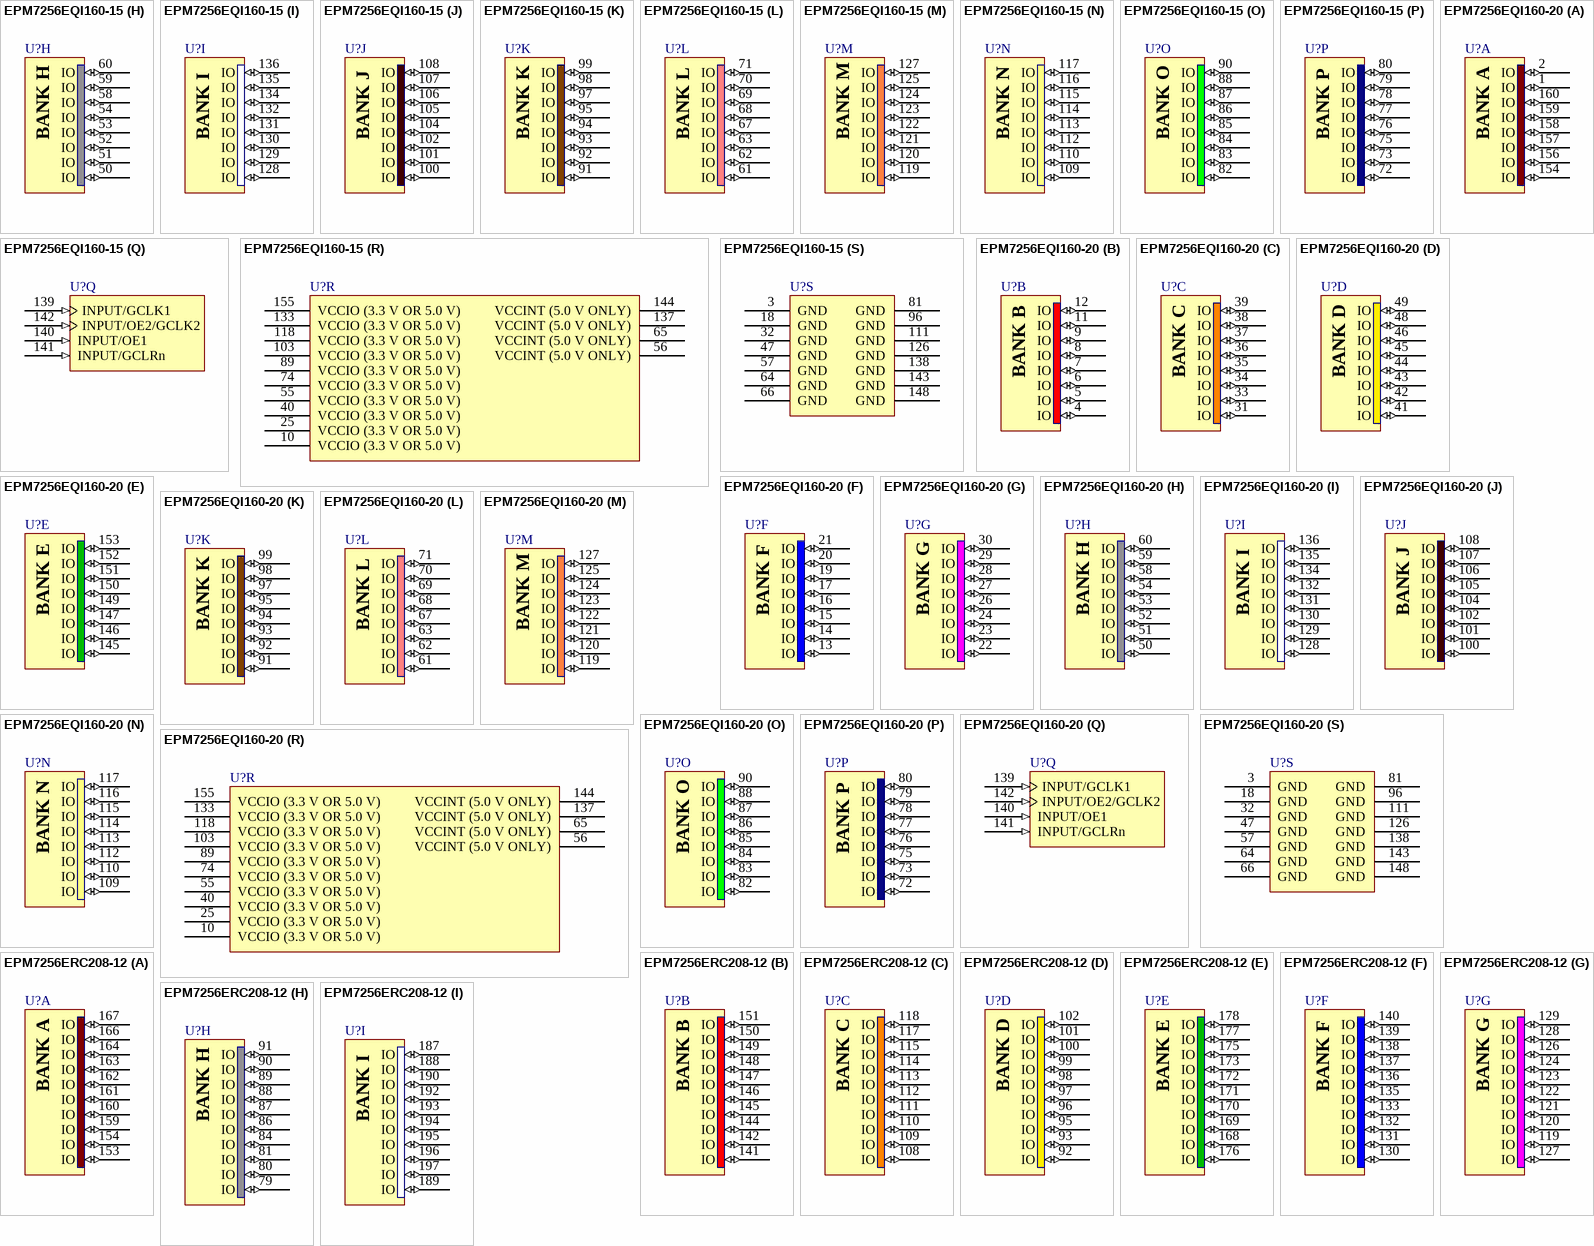
[diagram p93: symbols EPM7256EQI160-15 to EPM7256ERC208-12]

## EPM7256EQI160-15
designator U?
MAX 7000E 5V CPLD, 256 Macrocells, 160-Pin PQFP, Speed Grade 15, Industrial Grade; Published: 24-Nov-2000; LatestRevisionDate: 13-Apr-2006; LatestRevisionNote: IPC-7351 Footprint Added.; DatasheetVersion: ver6.7, Sep-2005; PackageVersion: ver14.3, Jul-2006; PackageReference: PQFP160; Publisher: Altium Limited; PackageDescription: 160-Pin Plastic Quad Flat Pack (PFQP160); Code_JEDEC: MS-022-DD-1; Code_IPC: QFP65P3120X3120-160; ComponentLink1Description: Manufacturer Link; ComponentLink1URL: http://www.altera.com/products/devices/max7k/m7k-index.html; ComponentLink2Description: Datasheet; ComponentLink2URL: http://www.altera.com/literature/ds/m7000.pdf; ComponentLink3Description: Packaging Specification; ComponentLink3URL: http://www.altera.com/literature/ds/dspkg.pdf
footprint PQFP160_N (QFP, 160-Leads, Body 28x28mm, Pitch 0.65mm, IPC Medium Density)
footprint PQFP160_L (QFP, 160-Leads, Body 28x28mm, Pitch 0.65mm, IPC High Density)
footprint PQFP160_M (QFP, 160-Leads, Body 28x28mm, Pitch 0.65mm, IPC Low Density)
3D model EPM7256E-PQFP160 (160-Pin Plastic Quad Flat Pack (PFQP160))
signal-integrity model 7k (MAX 7000S)
part A pins: 1 IO (io), 2 IO (io), 154 IO (io), 156 IO (io), 157 IO (io), 158 IO (io), 159 IO (io), 160 IO (io)
part B pins: 4 IO (io), 5 IO (io), 6 IO (io), 7 IO (io), 8 IO (io), 9 IO (io), 11 IO (io), 12 IO (io)
part C pins: 31 IO (io), 33 IO (io), 34 IO (io), 35 IO (io), 36 IO (io), 37 IO (io), 38 IO (io), 39 IO (io)
part D pins: 41 IO (io), 42 IO (io), 43 IO (io), 44 IO (io), 45 IO (io), 46 IO (io), 48 IO (io), 49 IO (io)
part E pins: 145 IO (io), 146 IO (io), 147 IO (io), 149 IO (io), 150 IO (io), 151 IO (io), 152 IO (io), 153 IO (io)
part F pins: 13 IO (io), 14 IO (io), 15 IO (io), 16 IO (io), 17 IO (io), 19 IO (io), 20 IO (io), 21 IO (io)
part G pins: 22 IO (io), 23 IO (io), 24 IO (io), 26 IO (io), 27 IO (io), 28 IO (io), 29 IO (io), 30 IO (io)
part H pins: 50 IO (io), 51 IO (io), 52 IO (io), 53 IO (io), 54 IO (io), 58 IO (io), 59 IO (io), 60 IO (io)
part I pins: 128 IO (io), 129 IO (io), 130 IO (io), 131 IO (io), 132 IO (io), 134 IO (io), 135 IO (io), 136 IO (io)
part J pins: 100 IO (io), 101 IO (io), 102 IO (io), 104 IO (io), 105 IO (io), 106 IO (io), 107 IO (io), 108 IO (io)
part K pins: 91 IO (io), 92 IO (io), 93 IO (io), 94 IO (io), 95 IO (io), 97 IO (io), 98 IO (io), 99 IO (io)
part L pins: 61 IO (io), 62 IO (io), 63 IO (io), 67 IO (io), 68 IO (io), 69 IO (io), 70 IO (io), 71 IO (io)
part M pins: 119 IO (io), 120 IO (io), 121 IO (io), 122 IO (io), 123 IO (io), 124 IO (io), 125 IO (io), 127 IO (io)
part N pins: 109 IO (io), 110 IO (io), 112 IO (io), 113 IO (io), 114 IO (io), 115 IO (io), 116 IO (io), 117 IO (io)
part O pins: 82 IO (io), 83 IO (io), 84 IO (io), 85 IO (io), 86 IO (io), 87 IO (io), 88 IO (io), 90 IO (io)
part P pins: 72 IO (io), 73 IO (io), 75 IO (io), 76 IO (io), 77 IO (io), 78 IO (io), 79 IO (io), 80 IO (io)
part Q pins: 139 INPUT/GCLK1 (in), 140 INPUT/OE1 (in), 141 INPUT/GCLRn (in), 142 INPUT/OE2/GCLK2 (in)
part R pins: 10 VCCIO (3.3 V OR 5.0 V) (power), 25 VCCIO (3.3 V OR 5.0 V) (power), 40 VCCIO (3.3 V OR 5.0 V) (power), 55 VCCIO (3.3 V OR 5.0 V) (power), 56 VCCINT (5.0 V ONLY) (power), 65 VCCINT (5.0 V ONLY) (power), 74 VCCIO (3.3 V OR 5.0 V) (power), 89 VCCIO (3.3 V OR 5.0 V) (power), 103 VCCIO (3.3 V OR 5.0 V) (power), 118 VCCIO (3.3 V OR 5.0 V) (power), 133 VCCIO (3.3 V OR 5.0 V) (power), 137 VCCINT (5.0 V ONLY) (power), 144 VCCINT (5.0 V ONLY) (power), 155 VCCIO (3.3 V OR 5.0 V) (power)
part S pins: 3 GND (power), 18 GND (power), 32 GND (power), 47 GND (power), 57 GND (power), 64 GND (power), 66 GND (power), 81 GND (power), 96 GND (power), 111 GND (power), 126 GND (power), 138 GND (power), 143 GND (power), 148 GND (power)
part A text: BANK A
part B text: BANK B
part C text: BANK C
part D text: BANK D
part E text: BANK E
part F text: BANK F
part G text: BANK G
part H text: BANK H
part I text: BANK I
part J text: BANK J
part K text: BANK K
part L text: BANK L
part M text: BANK M
part N text: BANK N
part O text: BANK O
part P text: BANK P

## EPM7256EQI160-20
designator U?
MAX 7000E 5V CPLD, 256 Macrocells, 160-Pin PQFP, Speed Grade 20, Industrial Grade; Published: 24-Nov-2000; LatestRevisionDate: 13-Apr-2006; LatestRevisionNote: IPC-7351 Footprint Added.; DatasheetVersion: ver6.7, Sep-2005; PackageVersion: ver14.3, Jul-2006; PackageReference: PQFP160; Publisher: Altium Limited; PackageDescription: 160-Pin Plastic Quad Flat Pack (PFQP160); Code_JEDEC: MS-022-DD-1; Code_IPC: QFP65P3120X3120-160; ComponentLink1Description: Manufacturer Link; ComponentLink1URL: http://www.altera.com/products/devices/max7k/m7k-index.html; ComponentLink2Description: Datasheet; ComponentLink2URL: http://www.altera.com/literature/ds/m7000.pdf; ComponentLink3Description: Packaging Specification; ComponentLink3URL: http://www.altera.com/literature/ds/dspkg.pdf
footprint PQFP160_N (QFP, 160-Leads, Body 28x28mm, Pitch 0.65mm, IPC Medium Density)
footprint PQFP160_L (QFP, 160-Leads, Body 28x28mm, Pitch 0.65mm, IPC High Density)
footprint PQFP160_M (QFP, 160-Leads, Body 28x28mm, Pitch 0.65mm, IPC Low Density)
3D model EPM7256E-PQFP160 (160-Pin Plastic Quad Flat Pack (PFQP160))
signal-integrity model 7k (MAX 7000S)
part A pins: 1 IO (io), 2 IO (io), 154 IO (io), 156 IO (io), 157 IO (io), 158 IO (io), 159 IO (io), 160 IO (io)
part B pins: 4 IO (io), 5 IO (io), 6 IO (io), 7 IO (io), 8 IO (io), 9 IO (io), 11 IO (io), 12 IO (io)
part C pins: 31 IO (io), 33 IO (io), 34 IO (io), 35 IO (io), 36 IO (io), 37 IO (io), 38 IO (io), 39 IO (io)
part D pins: 41 IO (io), 42 IO (io), 43 IO (io), 44 IO (io), 45 IO (io), 46 IO (io), 48 IO (io), 49 IO (io)
part E pins: 145 IO (io), 146 IO (io), 147 IO (io), 149 IO (io), 150 IO (io), 151 IO (io), 152 IO (io), 153 IO (io)
part F pins: 13 IO (io), 14 IO (io), 15 IO (io), 16 IO (io), 17 IO (io), 19 IO (io), 20 IO (io), 21 IO (io)
part G pins: 22 IO (io), 23 IO (io), 24 IO (io), 26 IO (io), 27 IO (io), 28 IO (io), 29 IO (io), 30 IO (io)
part H pins: 50 IO (io), 51 IO (io), 52 IO (io), 53 IO (io), 54 IO (io), 58 IO (io), 59 IO (io), 60 IO (io)
part I pins: 128 IO (io), 129 IO (io), 130 IO (io), 131 IO (io), 132 IO (io), 134 IO (io), 135 IO (io), 136 IO (io)
part J pins: 100 IO (io), 101 IO (io), 102 IO (io), 104 IO (io), 105 IO (io), 106 IO (io), 107 IO (io), 108 IO (io)
part K pins: 91 IO (io), 92 IO (io), 93 IO (io), 94 IO (io), 95 IO (io), 97 IO (io), 98 IO (io), 99 IO (io)
part L pins: 61 IO (io), 62 IO (io), 63 IO (io), 67 IO (io), 68 IO (io), 69 IO (io), 70 IO (io), 71 IO (io)
part M pins: 119 IO (io), 120 IO (io), 121 IO (io), 122 IO (io), 123 IO (io), 124 IO (io), 125 IO (io), 127 IO (io)
part N pins: 109 IO (io), 110 IO (io), 112 IO (io), 113 IO (io), 114 IO (io), 115 IO (io), 116 IO (io), 117 IO (io)
part O pins: 82 IO (io), 83 IO (io), 84 IO (io), 85 IO (io), 86 IO (io), 87 IO (io), 88 IO (io), 90 IO (io)
part P pins: 72 IO (io), 73 IO (io), 75 IO (io), 76 IO (io), 77 IO (io), 78 IO (io), 79 IO (io), 80 IO (io)
part Q pins: 139 INPUT/GCLK1 (in), 140 INPUT/OE1 (in), 141 INPUT/GCLRn (in), 142 INPUT/OE2/GCLK2 (in)
part R pins: 10 VCCIO (3.3 V OR 5.0 V) (power), 25 VCCIO (3.3 V OR 5.0 V) (power), 40 VCCIO (3.3 V OR 5.0 V) (power), 55 VCCIO (3.3 V OR 5.0 V) (power), 56 VCCINT (5.0 V ONLY) (power), 65 VCCINT (5.0 V ONLY) (power), 74 VCCIO (3.3 V OR 5.0 V) (power), 89 VCCIO (3.3 V OR 5.0 V) (power), 103 VCCIO (3.3 V OR 5.0 V) (power), 118 VCCIO (3.3 V OR 5.0 V) (power), 133 VCCIO (3.3 V OR 5.0 V) (power), 137 VCCINT (5.0 V ONLY) (power), 144 VCCINT (5.0 V ONLY) (power), 155 VCCIO (3.3 V OR 5.0 V) (power)
part S pins: 3 GND (power), 18 GND (power), 32 GND (power), 47 GND (power), 57 GND (power), 64 GND (power), 66 GND (power), 81 GND (power), 96 GND (power), 111 GND (power), 126 GND (power), 138 GND (power), 143 GND (power), 148 GND (power)
part A text: BANK A
part B text: BANK B
part C text: BANK C
part D text: BANK D
part E text: BANK E
part F text: BANK F
part G text: BANK G
part H text: BANK H
part I text: BANK I
part J text: BANK J
part K text: BANK K
part L text: BANK L
part M text: BANK M
part N text: BANK N
part O text: BANK O
part P text: BANK P

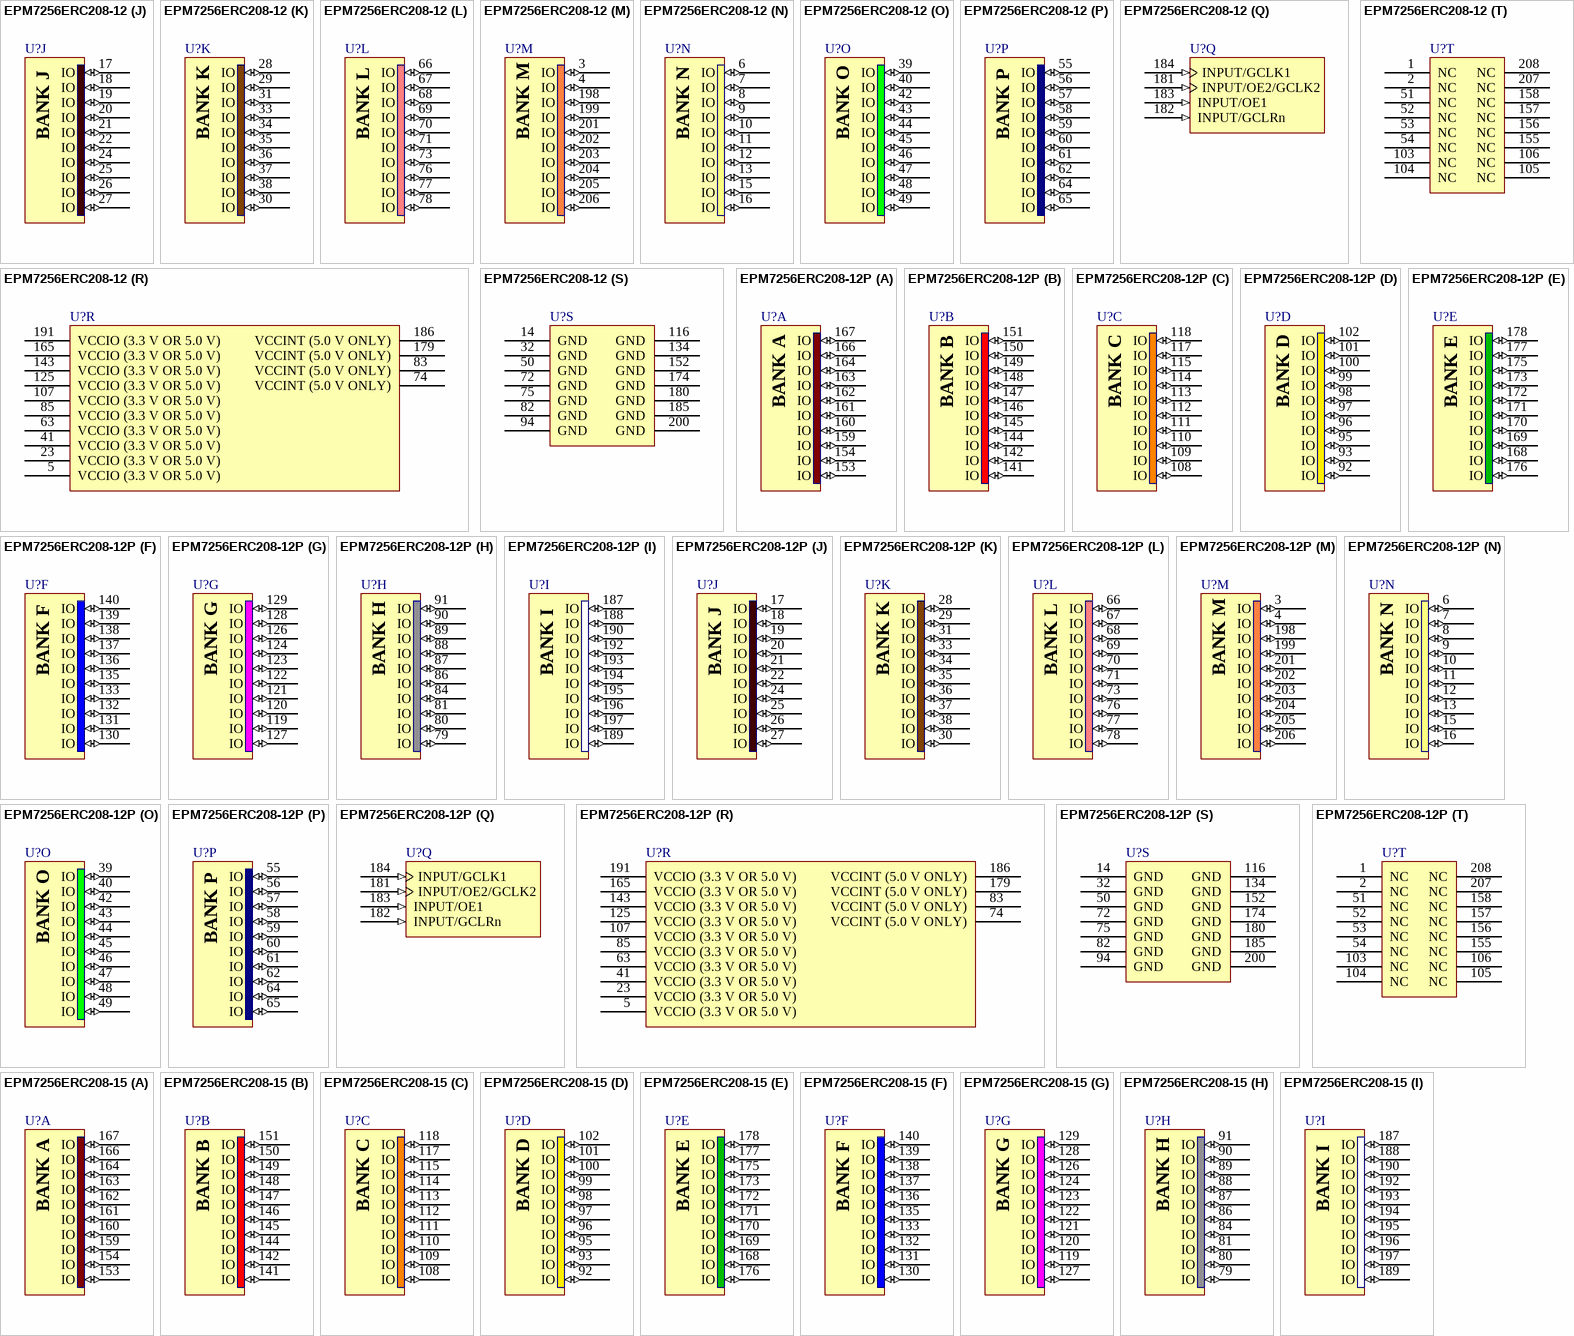
[diagram p94: symbols EPM7256ERC208-12 to EPM7256ERC208-15]

## EPM7256ERC208-12
designator U?
MAX 7000E 5V CPLD, 256 Macrocells, 208-Pin RQFP, Speed Grade 12, Commercial Grade; Published: 17-Sep-2003; LatestRevisionDate: 13-Apr-2006; LatestRevisionNote: IPC-7351 Footprint Added.; DatasheetVersion: ver6.7, Sep-2005; PackageVersion: ver14.3, Jul-2006; PackageReference: RQFP208; Publisher: Altium Limited; PackageDescription: 208-Pin Power Quad Flat Pack (RQFP208); Code_JEDEC: MS-029-FA-1; ComponentLink1Description: Manufacturer Link; ComponentLink1URL: http://www.altera.com/products/devices/max7k/m7k-index.html; ComponentLink2Description: Datasheet; ComponentLink2URL: http://www.altera.com/literature/ds/m7000.pdf; ComponentLink3Description: Packaging Specification; ComponentLink3URL: http://www.altera.com/literature/ds/dspkg.pdf
footprint RQFP208_N (Shrink QFP, 208-Leads, Body 28x28mm, Pitch 0.5mm, IPC Medium Density)
footprint RQFP208_L (Shrink QFP, 208-Leads, Body 28x28mm, Pitch 0.5mm, IPC High Density)
footprint RQFP208_M (Shrink QFP, 208-Leads, Body 28x28mm, Pitch 0.5mm, IPC Low Density)
3D model EPM7256E-RQFP208 (208-Pin Power Quad Flat Pack (RQFP208))
signal-integrity model 7k (MAX 7000S)
part A pins: 153 IO (io), 154 IO (io), 159 IO (io), 160 IO (io), 161 IO (io), 162 IO (io), 163 IO (io), 164 IO (io), 166 IO (io), 167 IO (io)
part B pins: 141 IO (io), 142 IO (io), 144 IO (io), 145 IO (io), 146 IO (io), 147 IO (io), 148 IO (io), 149 IO (io), 150 IO (io), 151 IO (io)
part C pins: 108 IO (io), 109 IO (io), 110 IO (io), 111 IO (io), 112 IO (io), 113 IO (io), 114 IO (io), 115 IO (io), 117 IO (io), 118 IO (io)
part D pins: 92 IO (io), 93 IO (io), 95 IO (io), 96 IO (io), 97 IO (io), 98 IO (io), 99 IO (io), 100 IO (io), 101 IO (io), 102 IO (io)
part E pins: 168 IO (io), 169 IO (io), 170 IO (io), 171 IO (io), 172 IO (io), 173 IO (io), 175 IO (io), 176 IO (io), 177 IO (io), 178 IO (io)
part F pins: 130 IO (io), 131 IO (io), 132 IO (io), 133 IO (io), 135 IO (io), 136 IO (io), 137 IO (io), 138 IO (io), 139 IO (io), 140 IO (io)
part G pins: 119 IO (io), 120 IO (io), 121 IO (io), 122 IO (io), 123 IO (io), 124 IO (io), 126 IO (io), 127 IO (io), 128 IO (io), 129 IO (io)
part H pins: 79 IO (io), 80 IO (io), 81 IO (io), 84 IO (io), 86 IO (io), 87 IO (io), 88 IO (io), 89 IO (io), 90 IO (io), 91 IO (io)
part I pins: 187 IO (io), 188 IO (io), 189 IO (io), 190 IO (io), 192 IO (io), 193 IO (io), 194 IO (io), 195 IO (io), 196 IO (io), 197 IO (io)
part J pins: 17 IO (io), 18 IO (io), 19 IO (io), 20 IO (io), 21 IO (io), 22 IO (io), 24 IO (io), 25 IO (io), 26 IO (io), 27 IO (io)
part K pins: 28 IO (io), 29 IO (io), 30 IO (io), 31 IO (io), 33 IO (io), 34 IO (io), 35 IO (io), 36 IO (io), 37 IO (io), 38 IO (io)
part L pins: 66 IO (io), 67 IO (io), 68 IO (io), 69 IO (io), 70 IO (io), 71 IO (io), 73 IO (io), 76 IO (io), 77 IO (io), 78 IO (io)
part M pins: 3 IO (io), 4 IO (io), 198 IO (io), 199 IO (io), 201 IO (io), 202 IO (io), 203 IO (io), 204 IO (io), 205 IO (io), 206 IO (io)
part N pins: 6 IO (io), 7 IO (io), 8 IO (io), 9 IO (io), 10 IO (io), 11 IO (io), 12 IO (io), 13 IO (io), 15 IO (io), 16 IO (io)
part O pins: 39 IO (io), 40 IO (io), 42 IO (io), 43 IO (io), 44 IO (io), 45 IO (io), 46 IO (io), 47 IO (io), 48 IO (io), 49 IO (io)
part P pins: 55 IO (io), 56 IO (io), 57 IO (io), 58 IO (io), 59 IO (io), 60 IO (io), 61 IO (io), 62 IO (io), 64 IO (io), 65 IO (io)
part Q pins: 181 INPUT/OE2/GCLK2 (in), 182 INPUT/GCLRn (in), 183 INPUT/OE1 (in), 184 INPUT/GCLK1 (in)
part R pins: 5 VCCIO (3.3 V OR 5.0 V) (power), 23 VCCIO (3.3 V OR 5.0 V) (power), 41 VCCIO (3.3 V OR 5.0 V) (power), 63 VCCIO (3.3 V OR 5.0 V) (power), 74 VCCINT (5.0 V ONLY) (power), 83 VCCINT (5.0 V ONLY) (power), 85 VCCIO (3.3 V OR 5.0 V) (power), 107 VCCIO (3.3 V OR 5.0 V) (power), 125 VCCIO (3.3 V OR 5.0 V) (power), 143 VCCIO (3.3 V OR 5.0 V) (power), 165 VCCIO (3.3 V OR 5.0 V) (power), 179 VCCINT (5.0 V ONLY) (power), 186 VCCINT (5.0 V ONLY) (power), 191 VCCIO (3.3 V OR 5.0 V) (power)
part S pins: 14 GND (power), 32 GND (power), 50 GND (power), 72 GND (power), 75 GND (power), 82 GND (power), 94 GND (power), 116 GND (power), 134 GND (power), 152 GND (power), 174 GND (power), 180 GND (power), 185 GND (power), 200 GND (power)
part T pins: 1 NC, 2 NC, 51 NC, 52 NC, 53 NC, 54 NC, 103 NC, 104 NC, 105 NC, 106 NC, 155 NC, 156 NC, 157 NC, 158 NC, 207 NC, 208 NC
part A text: BANK A
part B text: BANK B
part C text: BANK C
part D text: BANK D
part E text: BANK E
part F text: BANK F
part G text: BANK G
part H text: BANK H
part I text: BANK I
part J text: BANK J
part K text: BANK K
part L text: BANK L
part M text: BANK M
part N text: BANK N
part O text: BANK O
part P text: BANK P

## EPM7256ERC208-12P
designator U?
MAX 7000E 5V CPLD, 256 Macrocells, 208-Pin RQFP, Speed Grade 12P, Commercial Grade; Published: 17-Sep-2003; LatestRevisionDate: 13-Apr-2006; LatestRevisionNote: IPC-7351 Footprint Added.; DatasheetVersion: ver6.7, Sep-2005; PackageVersion: ver14.3, Jul-2006; PackageReference: RQFP208; Publisher: Altium Limited; PackageDescription: 208-Pin Power Quad Flat Pack (RQFP208); Code_JEDEC: MS-029-FA-1; ComponentLink1Description: Manufacturer Link; ComponentLink1URL: http://www.altera.com/products/devices/max7k/m7k-index.html; ComponentLink2Description: Datasheet; ComponentLink2URL: http://www.altera.com/literature/ds/m7000.pdf; ComponentLink3Description: Packaging Specification; ComponentLink3URL: http://www.altera.com/literature/ds/dspkg.pdf
footprint RQFP208_N (Shrink QFP, 208-Leads, Body 28x28mm, Pitch 0.5mm, IPC Medium Density)
footprint RQFP208_L (Shrink QFP, 208-Leads, Body 28x28mm, Pitch 0.5mm, IPC High Density)
footprint RQFP208_M (Shrink QFP, 208-Leads, Body 28x28mm, Pitch 0.5mm, IPC Low Density)
3D model EPM7256E-RQFP208 (208-Pin Power Quad Flat Pack (RQFP208))
signal-integrity model 7k (MAX 7000S)
part A pins: 153 IO (io), 154 IO (io), 159 IO (io), 160 IO (io), 161 IO (io), 162 IO (io), 163 IO (io), 164 IO (io), 166 IO (io), 167 IO (io)
part B pins: 141 IO (io), 142 IO (io), 144 IO (io), 145 IO (io), 146 IO (io), 147 IO (io), 148 IO (io), 149 IO (io), 150 IO (io), 151 IO (io)
part C pins: 108 IO (io), 109 IO (io), 110 IO (io), 111 IO (io), 112 IO (io), 113 IO (io), 114 IO (io), 115 IO (io), 117 IO (io), 118 IO (io)
part D pins: 92 IO (io), 93 IO (io), 95 IO (io), 96 IO (io), 97 IO (io), 98 IO (io), 99 IO (io), 100 IO (io), 101 IO (io), 102 IO (io)
part E pins: 168 IO (io), 169 IO (io), 170 IO (io), 171 IO (io), 172 IO (io), 173 IO (io), 175 IO (io), 176 IO (io), 177 IO (io), 178 IO (io)
part F pins: 130 IO (io), 131 IO (io), 132 IO (io), 133 IO (io), 135 IO (io), 136 IO (io), 137 IO (io), 138 IO (io), 139 IO (io), 140 IO (io)
part G pins: 119 IO (io), 120 IO (io), 121 IO (io), 122 IO (io), 123 IO (io), 124 IO (io), 126 IO (io), 127 IO (io), 128 IO (io), 129 IO (io)
part H pins: 79 IO (io), 80 IO (io), 81 IO (io), 84 IO (io), 86 IO (io), 87 IO (io), 88 IO (io), 89 IO (io), 90 IO (io), 91 IO (io)
part I pins: 187 IO (io), 188 IO (io), 189 IO (io), 190 IO (io), 192 IO (io), 193 IO (io), 194 IO (io), 195 IO (io), 196 IO (io), 197 IO (io)
part J pins: 17 IO (io), 18 IO (io), 19 IO (io), 20 IO (io), 21 IO (io), 22 IO (io), 24 IO (io), 25 IO (io), 26 IO (io), 27 IO (io)
part K pins: 28 IO (io), 29 IO (io), 30 IO (io), 31 IO (io), 33 IO (io), 34 IO (io), 35 IO (io), 36 IO (io), 37 IO (io), 38 IO (io)
part L pins: 66 IO (io), 67 IO (io), 68 IO (io), 69 IO (io), 70 IO (io), 71 IO (io), 73 IO (io), 76 IO (io), 77 IO (io), 78 IO (io)
part M pins: 3 IO (io), 4 IO (io), 198 IO (io), 199 IO (io), 201 IO (io), 202 IO (io), 203 IO (io), 204 IO (io), 205 IO (io), 206 IO (io)
part N pins: 6 IO (io), 7 IO (io), 8 IO (io), 9 IO (io), 10 IO (io), 11 IO (io), 12 IO (io), 13 IO (io), 15 IO (io), 16 IO (io)
part O pins: 39 IO (io), 40 IO (io), 42 IO (io), 43 IO (io), 44 IO (io), 45 IO (io), 46 IO (io), 47 IO (io), 48 IO (io), 49 IO (io)
part P pins: 55 IO (io), 56 IO (io), 57 IO (io), 58 IO (io), 59 IO (io), 60 IO (io), 61 IO (io), 62 IO (io), 64 IO (io), 65 IO (io)
part Q pins: 181 INPUT/OE2/GCLK2 (in), 182 INPUT/GCLRn (in), 183 INPUT/OE1 (in), 184 INPUT/GCLK1 (in)
part R pins: 5 VCCIO (3.3 V OR 5.0 V) (power), 23 VCCIO (3.3 V OR 5.0 V) (power), 41 VCCIO (3.3 V OR 5.0 V) (power), 63 VCCIO (3.3 V OR 5.0 V) (power), 74 VCCINT (5.0 V ONLY) (power), 83 VCCINT (5.0 V ONLY) (power), 85 VCCIO (3.3 V OR 5.0 V) (power), 107 VCCIO (3.3 V OR 5.0 V) (power), 125 VCCIO (3.3 V OR 5.0 V) (power), 143 VCCIO (3.3 V OR 5.0 V) (power), 165 VCCIO (3.3 V OR 5.0 V) (power), 179 VCCINT (5.0 V ONLY) (power), 186 VCCINT (5.0 V ONLY) (power), 191 VCCIO (3.3 V OR 5.0 V) (power)
part S pins: 14 GND (power), 32 GND (power), 50 GND (power), 72 GND (power), 75 GND (power), 82 GND (power), 94 GND (power), 116 GND (power), 134 GND (power), 152 GND (power), 174 GND (power), 180 GND (power), 185 GND (power), 200 GND (power)
part T pins: 1 NC, 2 NC, 51 NC, 52 NC, 53 NC, 54 NC, 103 NC, 104 NC, 105 NC, 106 NC, 155 NC, 156 NC, 157 NC, 158 NC, 207 NC, 208 NC
part A text: BANK A
part B text: BANK B
part C text: BANK C
part D text: BANK D
part E text: BANK E
part F text: BANK F
part G text: BANK G
part H text: BANK H
part I text: BANK I
part J text: BANK J
part K text: BANK K
part L text: BANK L
part M text: BANK M
part N text: BANK N
part O text: BANK O
part P text: BANK P

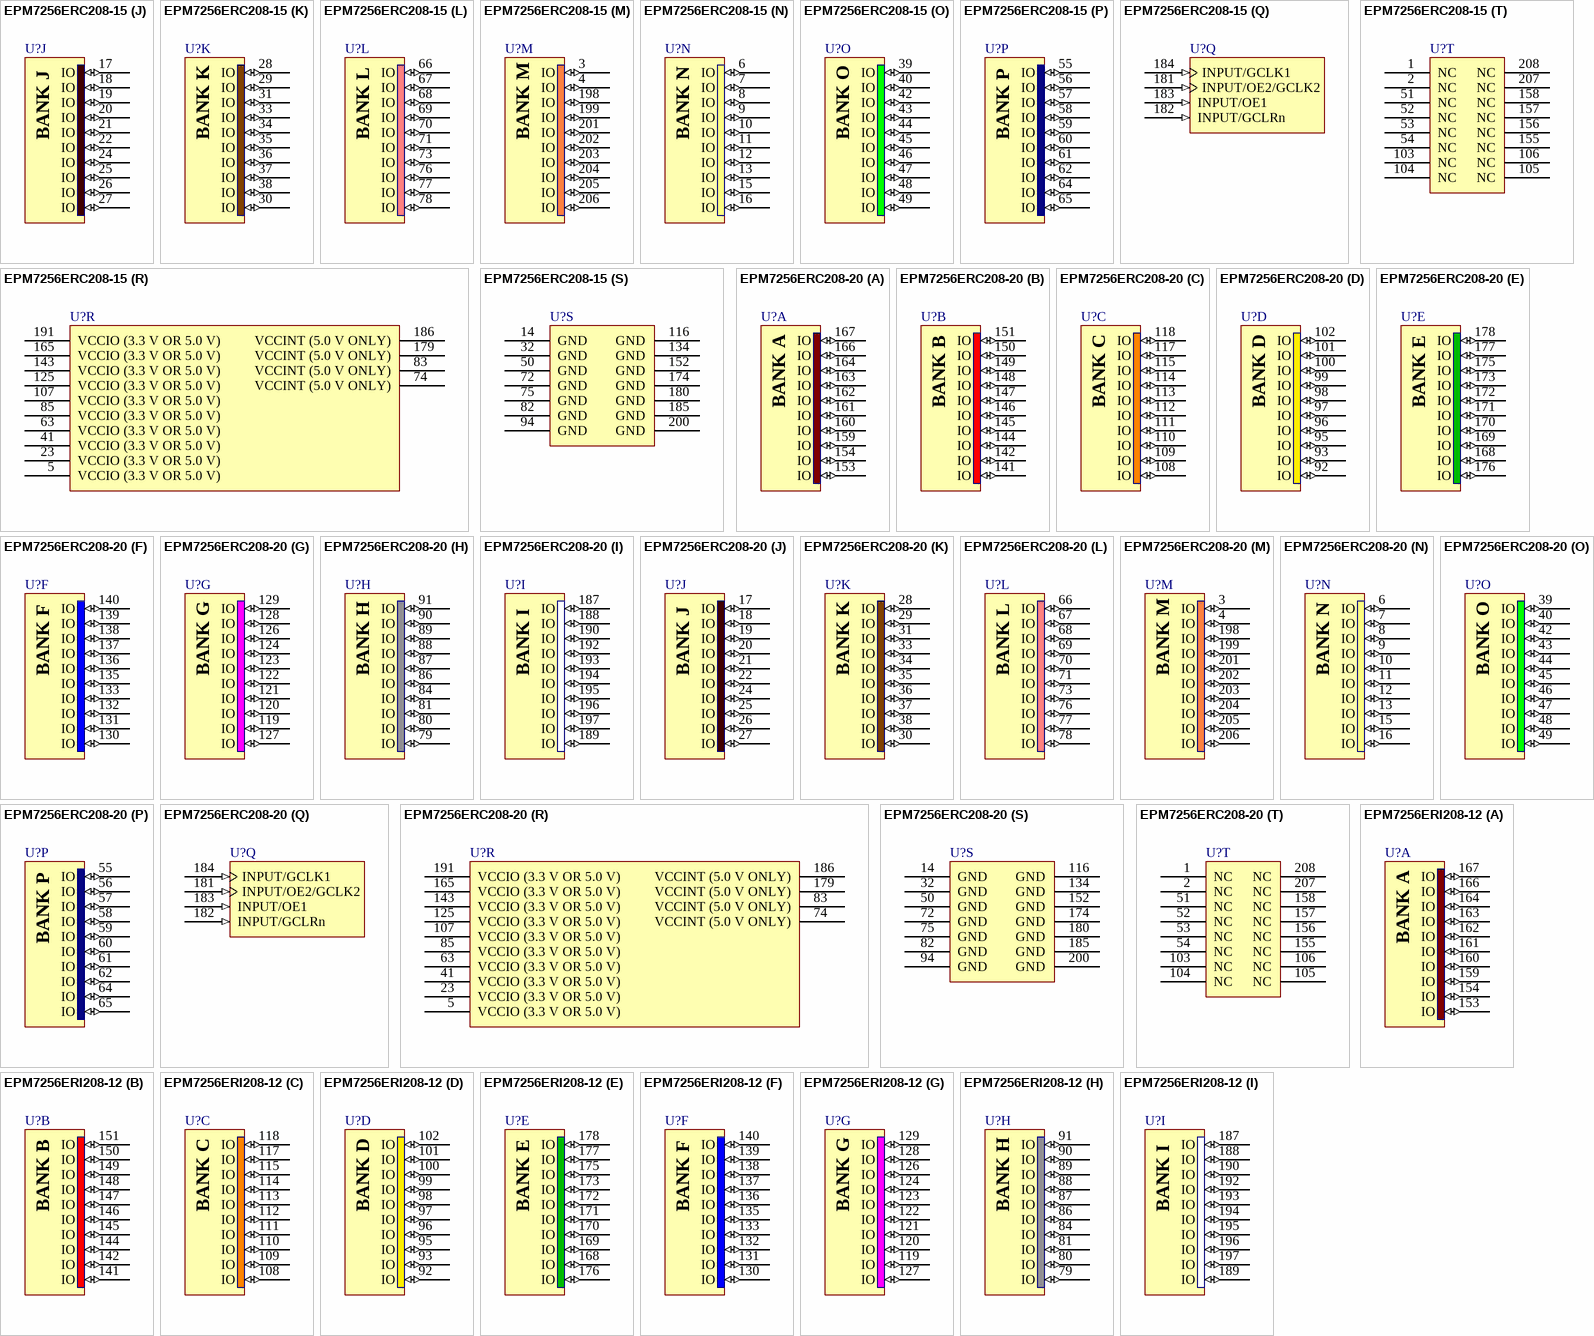
[diagram p95: symbols EPM7256ERC208-15 to EPM7256ERI208-12]

## EPM7256ERC208-15
designator U?
MAX 7000E 5V CPLD, 256 Macrocells, 208-Pin RQFP, Speed Grade 15, Commercial Grade; Published: 17-Sep-2003; LatestRevisionDate: 13-Apr-2006; LatestRevisionNote: IPC-7351 Footprint Added.; DatasheetVersion: ver6.7, Sep-2005; PackageVersion: ver14.3, Jul-2006; PackageReference: RQFP208; Publisher: Altium Limited; PackageDescription: 208-Pin Power Quad Flat Pack (RQFP208); Code_JEDEC: MS-029-FA-1; ComponentLink1Description: Manufacturer Link; ComponentLink1URL: http://www.altera.com/products/devices/max7k/m7k-index.html; ComponentLink2Description: Datasheet; ComponentLink2URL: http://www.altera.com/literature/ds/m7000.pdf; ComponentLink3Description: Packaging Specification; ComponentLink3URL: http://www.altera.com/literature/ds/dspkg.pdf
footprint RQFP208_N (Shrink QFP, 208-Leads, Body 28x28mm, Pitch 0.5mm, IPC Medium Density)
footprint RQFP208_L (Shrink QFP, 208-Leads, Body 28x28mm, Pitch 0.5mm, IPC High Density)
footprint RQFP208_M (Shrink QFP, 208-Leads, Body 28x28mm, Pitch 0.5mm, IPC Low Density)
3D model EPM7256E-RQFP208 (208-Pin Power Quad Flat Pack (RQFP208))
signal-integrity model 7k (MAX 7000S)
part A pins: 153 IO (io), 154 IO (io), 159 IO (io), 160 IO (io), 161 IO (io), 162 IO (io), 163 IO (io), 164 IO (io), 166 IO (io), 167 IO (io)
part B pins: 141 IO (io), 142 IO (io), 144 IO (io), 145 IO (io), 146 IO (io), 147 IO (io), 148 IO (io), 149 IO (io), 150 IO (io), 151 IO (io)
part C pins: 108 IO (io), 109 IO (io), 110 IO (io), 111 IO (io), 112 IO (io), 113 IO (io), 114 IO (io), 115 IO (io), 117 IO (io), 118 IO (io)
part D pins: 92 IO (io), 93 IO (io), 95 IO (io), 96 IO (io), 97 IO (io), 98 IO (io), 99 IO (io), 100 IO (io), 101 IO (io), 102 IO (io)
part E pins: 168 IO (io), 169 IO (io), 170 IO (io), 171 IO (io), 172 IO (io), 173 IO (io), 175 IO (io), 176 IO (io), 177 IO (io), 178 IO (io)
part F pins: 130 IO (io), 131 IO (io), 132 IO (io), 133 IO (io), 135 IO (io), 136 IO (io), 137 IO (io), 138 IO (io), 139 IO (io), 140 IO (io)
part G pins: 119 IO (io), 120 IO (io), 121 IO (io), 122 IO (io), 123 IO (io), 124 IO (io), 126 IO (io), 127 IO (io), 128 IO (io), 129 IO (io)
part H pins: 79 IO (io), 80 IO (io), 81 IO (io), 84 IO (io), 86 IO (io), 87 IO (io), 88 IO (io), 89 IO (io), 90 IO (io), 91 IO (io)
part I pins: 187 IO (io), 188 IO (io), 189 IO (io), 190 IO (io), 192 IO (io), 193 IO (io), 194 IO (io), 195 IO (io), 196 IO (io), 197 IO (io)
part J pins: 17 IO (io), 18 IO (io), 19 IO (io), 20 IO (io), 21 IO (io), 22 IO (io), 24 IO (io), 25 IO (io), 26 IO (io), 27 IO (io)
part K pins: 28 IO (io), 29 IO (io), 30 IO (io), 31 IO (io), 33 IO (io), 34 IO (io), 35 IO (io), 36 IO (io), 37 IO (io), 38 IO (io)
part L pins: 66 IO (io), 67 IO (io), 68 IO (io), 69 IO (io), 70 IO (io), 71 IO (io), 73 IO (io), 76 IO (io), 77 IO (io), 78 IO (io)
part M pins: 3 IO (io), 4 IO (io), 198 IO (io), 199 IO (io), 201 IO (io), 202 IO (io), 203 IO (io), 204 IO (io), 205 IO (io), 206 IO (io)
part N pins: 6 IO (io), 7 IO (io), 8 IO (io), 9 IO (io), 10 IO (io), 11 IO (io), 12 IO (io), 13 IO (io), 15 IO (io), 16 IO (io)
part O pins: 39 IO (io), 40 IO (io), 42 IO (io), 43 IO (io), 44 IO (io), 45 IO (io), 46 IO (io), 47 IO (io), 48 IO (io), 49 IO (io)
part P pins: 55 IO (io), 56 IO (io), 57 IO (io), 58 IO (io), 59 IO (io), 60 IO (io), 61 IO (io), 62 IO (io), 64 IO (io), 65 IO (io)
part Q pins: 181 INPUT/OE2/GCLK2 (in), 182 INPUT/GCLRn (in), 183 INPUT/OE1 (in), 184 INPUT/GCLK1 (in)
part R pins: 5 VCCIO (3.3 V OR 5.0 V) (power), 23 VCCIO (3.3 V OR 5.0 V) (power), 41 VCCIO (3.3 V OR 5.0 V) (power), 63 VCCIO (3.3 V OR 5.0 V) (power), 74 VCCINT (5.0 V ONLY) (power), 83 VCCINT (5.0 V ONLY) (power), 85 VCCIO (3.3 V OR 5.0 V) (power), 107 VCCIO (3.3 V OR 5.0 V) (power), 125 VCCIO (3.3 V OR 5.0 V) (power), 143 VCCIO (3.3 V OR 5.0 V) (power), 165 VCCIO (3.3 V OR 5.0 V) (power), 179 VCCINT (5.0 V ONLY) (power), 186 VCCINT (5.0 V ONLY) (power), 191 VCCIO (3.3 V OR 5.0 V) (power)
part S pins: 14 GND (power), 32 GND (power), 50 GND (power), 72 GND (power), 75 GND (power), 82 GND (power), 94 GND (power), 116 GND (power), 134 GND (power), 152 GND (power), 174 GND (power), 180 GND (power), 185 GND (power), 200 GND (power)
part T pins: 1 NC, 2 NC, 51 NC, 52 NC, 53 NC, 54 NC, 103 NC, 104 NC, 105 NC, 106 NC, 155 NC, 156 NC, 157 NC, 158 NC, 207 NC, 208 NC
part A text: BANK A
part B text: BANK B
part C text: BANK C
part D text: BANK D
part E text: BANK E
part F text: BANK F
part G text: BANK G
part H text: BANK H
part I text: BANK I
part J text: BANK J
part K text: BANK K
part L text: BANK L
part M text: BANK M
part N text: BANK N
part O text: BANK O
part P text: BANK P

## EPM7256ERC208-20
designator U?
MAX 7000E 5V CPLD, 256 Macrocells, 208-Pin RQFP, Speed Grade 20, Commercial Grade; Published: 17-Sep-2003; LatestRevisionDate: 13-Apr-2006; LatestRevisionNote: IPC-7351 Footprint Added.; DatasheetVersion: ver6.7, Sep-2005; PackageVersion: ver14.3, Jul-2006; PackageReference: RQFP208; Publisher: Altium Limited; PackageDescription: 208-Pin Power Quad Flat Pack (RQFP208); Code_JEDEC: MS-029-FA-1; ComponentLink1Description: Manufacturer Link; ComponentLink1URL: http://www.altera.com/products/devices/max7k/m7k-index.html; ComponentLink2Description: Datasheet; ComponentLink2URL: http://www.altera.com/literature/ds/m7000.pdf; ComponentLink3Description: Packaging Specification; ComponentLink3URL: http://www.altera.com/literature/ds/dspkg.pdf
footprint RQFP208_N (Shrink QFP, 208-Leads, Body 28x28mm, Pitch 0.5mm, IPC Medium Density)
footprint RQFP208_L (Shrink QFP, 208-Leads, Body 28x28mm, Pitch 0.5mm, IPC High Density)
footprint RQFP208_M (Shrink QFP, 208-Leads, Body 28x28mm, Pitch 0.5mm, IPC Low Density)
3D model EPM7256E-RQFP208 (208-Pin Power Quad Flat Pack (RQFP208))
signal-integrity model 7k (MAX 7000S)
part A pins: 153 IO (io), 154 IO (io), 159 IO (io), 160 IO (io), 161 IO (io), 162 IO (io), 163 IO (io), 164 IO (io), 166 IO (io), 167 IO (io)
part B pins: 141 IO (io), 142 IO (io), 144 IO (io), 145 IO (io), 146 IO (io), 147 IO (io), 148 IO (io), 149 IO (io), 150 IO (io), 151 IO (io)
part C pins: 108 IO (io), 109 IO (io), 110 IO (io), 111 IO (io), 112 IO (io), 113 IO (io), 114 IO (io), 115 IO (io), 117 IO (io), 118 IO (io)
part D pins: 92 IO (io), 93 IO (io), 95 IO (io), 96 IO (io), 97 IO (io), 98 IO (io), 99 IO (io), 100 IO (io), 101 IO (io), 102 IO (io)
part E pins: 168 IO (io), 169 IO (io), 170 IO (io), 171 IO (io), 172 IO (io), 173 IO (io), 175 IO (io), 176 IO (io), 177 IO (io), 178 IO (io)
part F pins: 130 IO (io), 131 IO (io), 132 IO (io), 133 IO (io), 135 IO (io), 136 IO (io), 137 IO (io), 138 IO (io), 139 IO (io), 140 IO (io)
part G pins: 119 IO (io), 120 IO (io), 121 IO (io), 122 IO (io), 123 IO (io), 124 IO (io), 126 IO (io), 127 IO (io), 128 IO (io), 129 IO (io)
part H pins: 79 IO (io), 80 IO (io), 81 IO (io), 84 IO (io), 86 IO (io), 87 IO (io), 88 IO (io), 89 IO (io), 90 IO (io), 91 IO (io)
part I pins: 187 IO (io), 188 IO (io), 189 IO (io), 190 IO (io), 192 IO (io), 193 IO (io), 194 IO (io), 195 IO (io), 196 IO (io), 197 IO (io)
part J pins: 17 IO (io), 18 IO (io), 19 IO (io), 20 IO (io), 21 IO (io), 22 IO (io), 24 IO (io), 25 IO (io), 26 IO (io), 27 IO (io)
part K pins: 28 IO (io), 29 IO (io), 30 IO (io), 31 IO (io), 33 IO (io), 34 IO (io), 35 IO (io), 36 IO (io), 37 IO (io), 38 IO (io)
part L pins: 66 IO (io), 67 IO (io), 68 IO (io), 69 IO (io), 70 IO (io), 71 IO (io), 73 IO (io), 76 IO (io), 77 IO (io), 78 IO (io)
part M pins: 3 IO (io), 4 IO (io), 198 IO (io), 199 IO (io), 201 IO (io), 202 IO (io), 203 IO (io), 204 IO (io), 205 IO (io), 206 IO (io)
part N pins: 6 IO (io), 7 IO (io), 8 IO (io), 9 IO (io), 10 IO (io), 11 IO (io), 12 IO (io), 13 IO (io), 15 IO (io), 16 IO (io)
part O pins: 39 IO (io), 40 IO (io), 42 IO (io), 43 IO (io), 44 IO (io), 45 IO (io), 46 IO (io), 47 IO (io), 48 IO (io), 49 IO (io)
part P pins: 55 IO (io), 56 IO (io), 57 IO (io), 58 IO (io), 59 IO (io), 60 IO (io), 61 IO (io), 62 IO (io), 64 IO (io), 65 IO (io)
part Q pins: 181 INPUT/OE2/GCLK2 (in), 182 INPUT/GCLRn (in), 183 INPUT/OE1 (in), 184 INPUT/GCLK1 (in)
part R pins: 5 VCCIO (3.3 V OR 5.0 V) (power), 23 VCCIO (3.3 V OR 5.0 V) (power), 41 VCCIO (3.3 V OR 5.0 V) (power), 63 VCCIO (3.3 V OR 5.0 V) (power), 74 VCCINT (5.0 V ONLY) (power), 83 VCCINT (5.0 V ONLY) (power), 85 VCCIO (3.3 V OR 5.0 V) (power), 107 VCCIO (3.3 V OR 5.0 V) (power), 125 VCCIO (3.3 V OR 5.0 V) (power), 143 VCCIO (3.3 V OR 5.0 V) (power), 165 VCCIO (3.3 V OR 5.0 V) (power), 179 VCCINT (5.0 V ONLY) (power), 186 VCCINT (5.0 V ONLY) (power), 191 VCCIO (3.3 V OR 5.0 V) (power)
part S pins: 14 GND (power), 32 GND (power), 50 GND (power), 72 GND (power), 75 GND (power), 82 GND (power), 94 GND (power), 116 GND (power), 134 GND (power), 152 GND (power), 174 GND (power), 180 GND (power), 185 GND (power), 200 GND (power)
part T pins: 1 NC, 2 NC, 51 NC, 52 NC, 53 NC, 54 NC, 103 NC, 104 NC, 105 NC, 106 NC, 155 NC, 156 NC, 157 NC, 158 NC, 207 NC, 208 NC
part A text: BANK A
part B text: BANK B
part C text: BANK C
part D text: BANK D
part E text: BANK E
part F text: BANK F
part G text: BANK G
part H text: BANK H
part I text: BANK I
part J text: BANK J
part K text: BANK K
part L text: BANK L
part M text: BANK M
part N text: BANK N
part O text: BANK O
part P text: BANK P

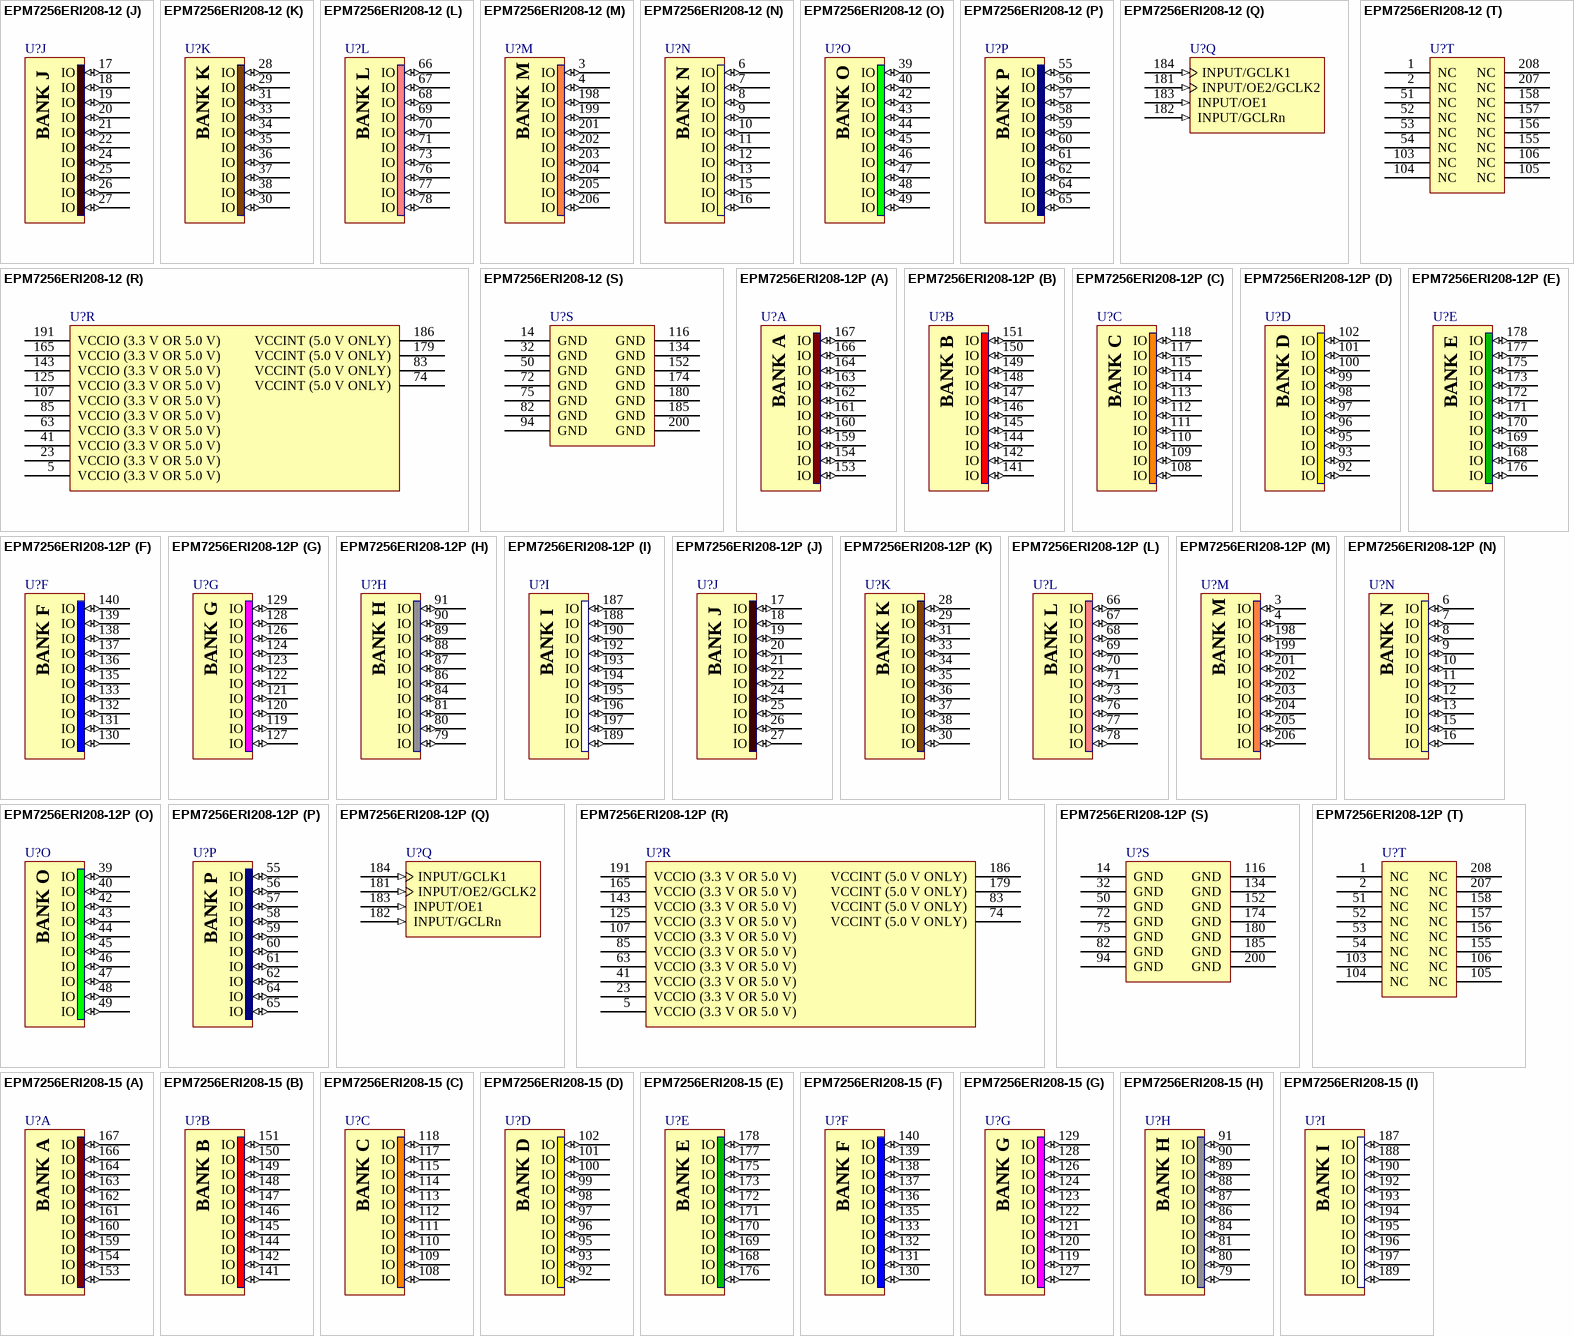
[diagram p96: symbols EPM7256ERI208-12 to EPM7256ERI208-15]